# Altium integrated library Microchip Microcontroller 16-Bit PIC24F.IntLib: 262 symbols (part 2 of 15)
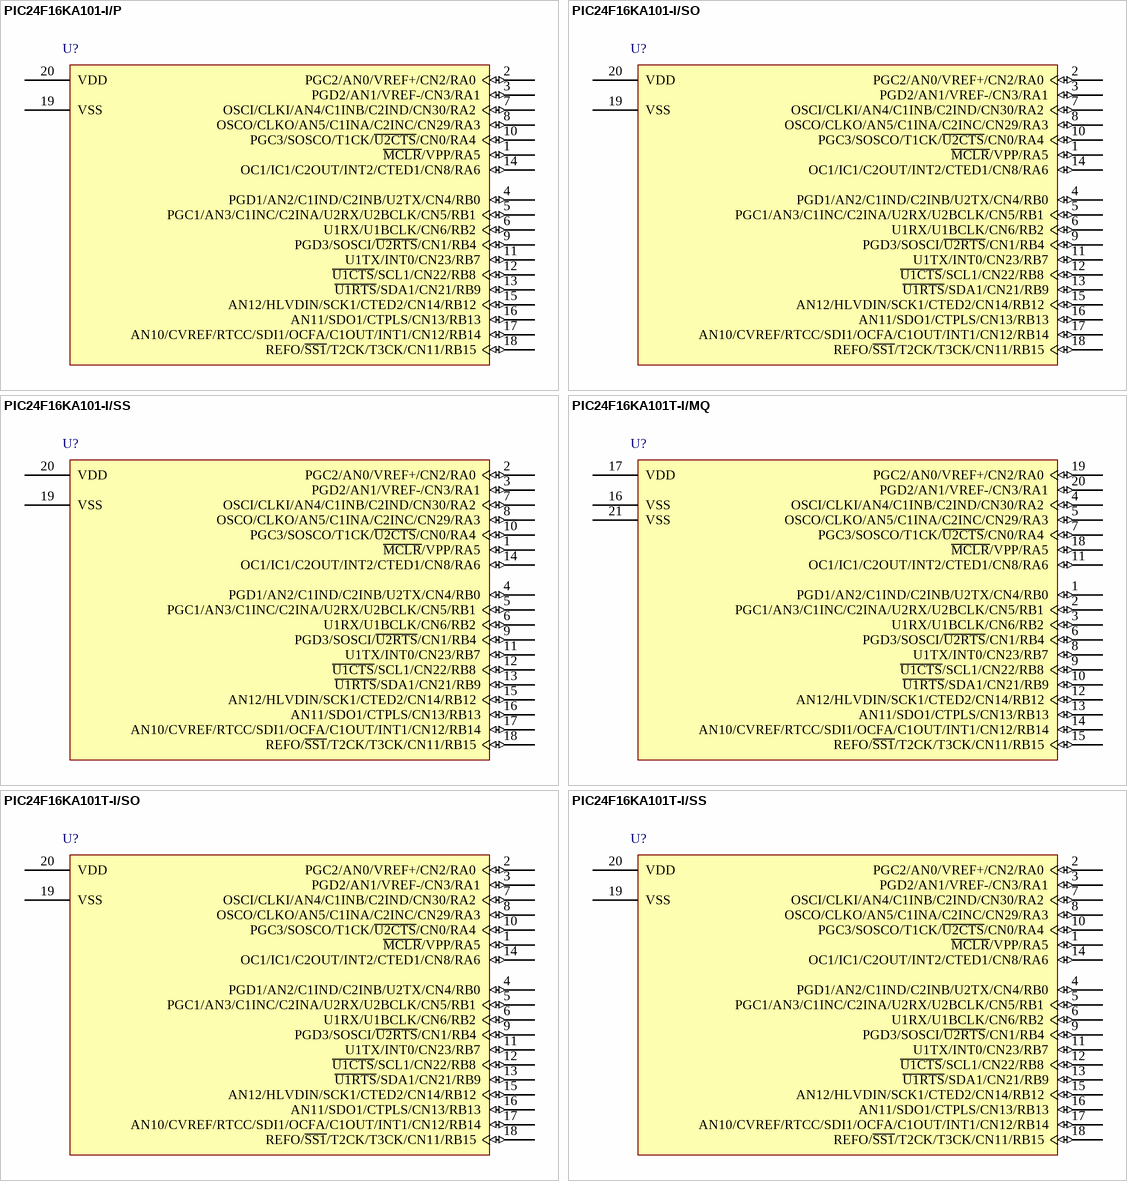
[diagram p62: symbols PIC24F16KA101-I/P to PIC24F16KA101T-I/SS]

## PIC24F16KA101-I/P
designator U?
16-Bit Flash Microcontroller with nanoWatt XLP Technology, 16KB Flash, 1.5KB SRAM, 20-Pin PDIP, Industrial Temperature; Published: 2-Dec-2009; LatestRevisionDate: 07-Oct-2010; LatestRevisionNote: Supplier links updated.; DatasheetVersion: revB, Mar-2009; PackageVersion: revBB, Aug-2009; PackageReference: PDIP300-P20; Publisher: Altium Limited; PackageDescription: 20-Lead Plastic Dual In-Line (P) - 300 mil Body [PDIP]; Supplier 1: Digi-Key; Supplier Part Number 1: PIC24F16KA101-I/P-ND; Supplier 2: Farnell; Supplier Part Number 2: 1707626; ComponentLink1Description: Datasheet; ComponentLink1URL: http://ww1.microchip.com/downloads/en/DeviceDoc/PIC24F16KA102_Family_datasheet_39927b.pdf; ComponentLink2Description: Packaging Specification; ComponentLink2URL: http://www.microchip.com/stellent/groups/techpub_sg/documents/packagingspec/en012702.pdf; ComponentLink3Description: Microchip.com Home; ComponentLink3URL: http://www.microchip.com/
footprint PDIP300-P20 (DIP, 20-Leads, Row Spacing 7.62mm, Pitch 2.54mm, Body 25.9x6.6mm)
pins: 1 ~{MCLR}/VPP/RA5 (io), 2 PGC2/AN0/VREF+/CN2/RA0 (io), 3 PGD2/AN1/VREF-/CN3/RA1 (io), 4 PGD1/AN2/C1IND/C2INB/U2TX/CN4/RB0 (io), 5 PGC1/AN3/C1INC/C2INA/U2RX/U2BCLK/CN5/RB1 (io), 6 U1RX/U1BCLK/CN6/RB2 (io), 7 OSCI/CLKI/AN4/C1INB/C2IND/CN30/RA2 (io), 8 OSCO/CLKO/AN5/C1INA/C2INC/CN29/RA3 (io), 9 PGD3/SOSCI/~{U2RTS}/CN1/RB4 (io), 10 PGC3/SOSCO/T1CK/~{U2CTS}/CN0/RA4 (io), 11 U1TX/INT0/CN23/RB7 (io), 12 ~{U1CTS}/SCL1/CN22/RB8 (io), 13 ~{U1RTS}/SDA1/CN21/RB9 (io), 14 OC1/IC1/C2OUT/INT2/CTED1/CN8/RA6 (io), 15 AN12/HLVDIN/SCK1/CTED2/CN14/RB12 (io), 16 AN11/SDO1/CTPLS/CN13/RB13 (io), 17 AN10/CVREF/RTCC/SDI1/OCFA/C1OUT/INT1/CN12/RB14 (io), 18 REFO/~{SS1}/T2CK/T3CK/CN11/RB15 (io), 19 VSS (power), 20 VDD (power)

## PIC24F16KA101-I/SO
designator U?
16-Bit Flash Microcontroller with nanoWatt XLP Technology, 16KB Flash, 1.5KB SRAM, 20-Pin SOIC, Industrial Temperature; Published: 2-Dec-2009; LatestRevisionDate: 07-Oct-2010; LatestRevisionNote: Supplier links updated.; DatasheetVersion: revB, Mar-2009; PackageVersion: revBB, Aug-2009; PackageReference: SOIC-SO20; Publisher: Altium Limited; PackageDescription: 20-Lead Plastic Small Outline (SO) - Wide 7.50mm Body [SOIC]; Supplier 1: Digi-Key; Supplier Part Number 1: PIC24F16KA101-I/SO-ND; Supplier 2: Farnell; Supplier Part Number 2: 1707627; Code_JEDEC: MS-013-AC; Code_IPC: SOIC127P1030-20; ComponentLink1Description: Datasheet; ComponentLink1URL: http://ww1.microchip.com/downloads/en/DeviceDoc/PIC24F16KA102_Family_datasheet_39927b.pdf; ComponentLink2Description: Packaging Specification; ComponentLink2URL: http://www.microchip.com/stellent/groups/techpub_sg/documents/packagingspec/en012702.pdf; ComponentLink3Description: Microchip.com Home; ComponentLink3URL: http://www.microchip.com/
footprint SOIC-SO20_N (SOIC, 20-Leads, Body 12.8x7.5mm, Pitch 1.27mm, IPC Medium Density)
footprint SOIC-SO20_L (SOIC, 20-Leads, Body 12.8x7.5mm, Pitch 1.27mm, IPC High Density)
footprint SOIC-SO20_M (SOIC, 20-Leads, Body 12.8x7.5mm, Pitch 1.27mm, IPC Low Density)
pins: 1 ~{MCLR}/VPP/RA5 (io), 2 PGC2/AN0/VREF+/CN2/RA0 (io), 3 PGD2/AN1/VREF-/CN3/RA1 (io), 4 PGD1/AN2/C1IND/C2INB/U2TX/CN4/RB0 (io), 5 PGC1/AN3/C1INC/C2INA/U2RX/U2BCLK/CN5/RB1 (io), 6 U1RX/U1BCLK/CN6/RB2 (io), 7 OSCI/CLKI/AN4/C1INB/C2IND/CN30/RA2 (io), 8 OSCO/CLKO/AN5/C1INA/C2INC/CN29/RA3 (io), 9 PGD3/SOSCI/~{U2RTS}/CN1/RB4 (io), 10 PGC3/SOSCO/T1CK/~{U2CTS}/CN0/RA4 (io), 11 U1TX/INT0/CN23/RB7 (io), 12 ~{U1CTS}/SCL1/CN22/RB8 (io), 13 ~{U1RTS}/SDA1/CN21/RB9 (io), 14 OC1/IC1/C2OUT/INT2/CTED1/CN8/RA6 (io), 15 AN12/HLVDIN/SCK1/CTED2/CN14/RB12 (io), 16 AN11/SDO1/CTPLS/CN13/RB13 (io), 17 AN10/CVREF/RTCC/SDI1/OCFA/C1OUT/INT1/CN12/RB14 (io), 18 REFO/~{SS1}/T2CK/T3CK/CN11/RB15 (io), 19 VSS (power), 20 VDD (power)

## PIC24F16KA101-I/SS
designator U?
16-Bit Flash Microcontroller with nanoWatt XLP Technology, 16KB Flash, 1.5KB SRAM, 20-Pin SSOP, Industrial Temperature; Published: 2-Dec-2009; LatestRevisionDate: 07-Oct-2010; LatestRevisionNote: Supplier links updated.; DatasheetVersion: revB, Mar-2009; PackageVersion: revBB, Aug-2009; PackageReference: SSOP-SS20; Publisher: Altium Limited; PackageDescription: 20-Lead Plastic Shrink Small Outline (SS) - 5.3mm Body [SSOP]; Supplier 1: Digi-Key; Supplier Part Number 1: PIC24F16KA101-I/SS-ND; Supplier 2: Farnell; Supplier Part Number 2: 1707628; Code_JEDEC: MO-150; Code_IPC: SOP65P780-20; ComponentLink1Description: Datasheet; ComponentLink1URL: http://ww1.microchip.com/downloads/en/DeviceDoc/PIC24F16KA102_Family_datasheet_39927b.pdf; ComponentLink2Description: Packaging Specification; ComponentLink2URL: http://www.microchip.com/stellent/groups/techpub_sg/documents/packagingspec/en012702.pdf; ComponentLink3Description: Microchip.com Home; ComponentLink3URL: http://www.microchip.com/
footprint SSOP-SS20_N (SOP, 20-Leads, Body 7.2x5.2mm, Pitch 0.65mm, IPC Medium Density)
footprint SSOP-SS20_L (SOP, 20-Leads, Body 7.2x5.2mm, Pitch 0.65mm, IPC High Density)
footprint SSOP-SS20_M (SOP, 20-Leads, Body 7.2x5.2mm, Pitch 0.65mm, IPC Low Density)
pins: 1 ~{MCLR}/VPP/RA5 (io), 2 PGC2/AN0/VREF+/CN2/RA0 (io), 3 PGD2/AN1/VREF-/CN3/RA1 (io), 4 PGD1/AN2/C1IND/C2INB/U2TX/CN4/RB0 (io), 5 PGC1/AN3/C1INC/C2INA/U2RX/U2BCLK/CN5/RB1 (io), 6 U1RX/U1BCLK/CN6/RB2 (io), 7 OSCI/CLKI/AN4/C1INB/C2IND/CN30/RA2 (io), 8 OSCO/CLKO/AN5/C1INA/C2INC/CN29/RA3 (io), 9 PGD3/SOSCI/~{U2RTS}/CN1/RB4 (io), 10 PGC3/SOSCO/T1CK/~{U2CTS}/CN0/RA4 (io), 11 U1TX/INT0/CN23/RB7 (io), 12 ~{U1CTS}/SCL1/CN22/RB8 (io), 13 ~{U1RTS}/SDA1/CN21/RB9 (io), 14 OC1/IC1/C2OUT/INT2/CTED1/CN8/RA6 (io), 15 AN12/HLVDIN/SCK1/CTED2/CN14/RB12 (io), 16 AN11/SDO1/CTPLS/CN13/RB13 (io), 17 AN10/CVREF/RTCC/SDI1/OCFA/C1OUT/INT1/CN12/RB14 (io), 18 REFO/~{SS1}/T2CK/T3CK/CN11/RB15 (io), 19 VSS (power), 20 VDD (power)

## PIC24F16KA101T-I/MQ
designator U?
16-Bit Flash Microcontroller with nanoWatt XLP Technology, 16KB Flash, 1.5KB SRAM, 20-Pin QFN, Industrial Temperature, Tape and Reel; Published: 2-Dec-2009; LatestRevisionDate: 07-Oct-2010; LatestRevisionNote: Supplier links updated.; DatasheetVersion: revB, Mar-2009; PackageVersion: revBB, Aug-2009; PackageReference: QFN-MQ20; Publisher: Altium Limited; PackageDescription: 20-Lead Plastic Quad Flat, No Lead Package (MQ) - 5x5x0.9 mm Body [QFN]; Supplier 1: Digi-Key; Supplier Part Number 1: PIC24F16KA101T-I/MQ-ND; ComponentLink1Description: Datasheet; ComponentLink1URL: http://ww1.microchip.com/downloads/en/DeviceDoc/PIC24F16KA102_Family_datasheet_39927b.pdf; ComponentLink2Description: Packaging Specification; ComponentLink2URL: http://www.microchip.com/stellent/groups/techpub_sg/documents/packagingspec/en012702.pdf; ComponentLink3Description: Microchip.com Home; ComponentLink3URL: http://www.microchip.com/
footprint QFN-MQ20_N (QFN, 20-Leads, Body 5x5 mm, Pitch 0.65mm, IPC Medium Density)
footprint QFN-MQ20_L (QFN, 20-Leads, Body 5x5 mm, Pitch 0.65mm, IPC High Density)
footprint QFN-MQ20_M (QFN, 20-Leads, Body 5x5 mm, Pitch 0.65mm, IPC Low Density)
pins: 1 PGD1/AN2/C1IND/C2INB/U2TX/CN4/RB0 (io), 2 PGC1/AN3/C1INC/C2INA/U2RX/U2BCLK/CN5/RB1 (io), 3 U1RX/U1BCLK/CN6/RB2 (io), 4 OSCI/CLKI/AN4/C1INB/C2IND/CN30/RA2 (io), 5 OSCO/CLKO/AN5/C1INA/C2INC/CN29/RA3 (io), 6 PGD3/SOSCI/~{U2RTS}/CN1/RB4 (io), 7 PGC3/SOSCO/T1CK/~{U2CTS}/CN0/RA4 (io), 8 U1TX/INT0/CN23/RB7 (io), 9 ~{U1CTS}/SCL1/CN22/RB8 (io), 10 ~{U1RTS}/SDA1/CN21/RB9 (io), 11 OC1/IC1/C2OUT/INT2/CTED1/CN8/RA6 (io), 12 AN12/HLVDIN/SCK1/CTED2/CN14/RB12 (io), 13 AN11/SDO1/CTPLS/CN13/RB13 (io), 14 AN10/CVREF/RTCC/SDI1/OCFA/C1OUT/INT1/CN12/RB14 (io), 15 REFO/~{SS1}/T2CK/T3CK/CN11/RB15 (io), 16 VSS (power), 17 VDD (power), 18 ~{MCLR}/VPP/RA5 (io), 19 PGC2/AN0/VREF+/CN2/RA0 (io), 20 PGD2/AN1/VREF-/CN3/RA1 (io), 21 VSS (power)

## PIC24F16KA101T-I/SO
designator U?
16-Bit Flash Microcontroller with nanoWatt XLP Technology, 16KB Flash, 1.5KB SRAM, 20-Pin SOIC, Industrial Temperature, Tape and Reel; Published: 2-Dec-2009; LatestRevisionDate: 07-Oct-2010; LatestRevisionNote: Supplier links updated.; DatasheetVersion: revB, Mar-2009; PackageVersion: revBB, Aug-2009; PackageReference: SOIC-SO20; Publisher: Altium Limited; PackageDescription: 20-Lead Plastic Small Outline (SO) - Wide 7.50mm Body [SOIC]; Supplier 1: Digi-Key; Supplier Part Number 1: PIC24F16KA101T-I/SO-ND; Code_JEDEC: MS-013-AC; Code_IPC: SOIC127P1030-20; ComponentLink1Description: Datasheet; ComponentLink1URL: http://ww1.microchip.com/downloads/en/DeviceDoc/PIC24F16KA102_Family_datasheet_39927b.pdf; ComponentLink2Description: Packaging Specification; ComponentLink2URL: http://www.microchip.com/stellent/groups/techpub_sg/documents/packagingspec/en012702.pdf; ComponentLink3Description: Microchip.com Home; ComponentLink3URL: http://www.microchip.com/
footprint SOIC-SO20_N (SOIC, 20-Leads, Body 12.8x7.5mm, Pitch 1.27mm, IPC Medium Density)
footprint SOIC-SO20_L (SOIC, 20-Leads, Body 12.8x7.5mm, Pitch 1.27mm, IPC High Density)
footprint SOIC-SO20_M (SOIC, 20-Leads, Body 12.8x7.5mm, Pitch 1.27mm, IPC Low Density)
pins: 1 ~{MCLR}/VPP/RA5 (io), 2 PGC2/AN0/VREF+/CN2/RA0 (io), 3 PGD2/AN1/VREF-/CN3/RA1 (io), 4 PGD1/AN2/C1IND/C2INB/U2TX/CN4/RB0 (io), 5 PGC1/AN3/C1INC/C2INA/U2RX/U2BCLK/CN5/RB1 (io), 6 U1RX/U1BCLK/CN6/RB2 (io), 7 OSCI/CLKI/AN4/C1INB/C2IND/CN30/RA2 (io), 8 OSCO/CLKO/AN5/C1INA/C2INC/CN29/RA3 (io), 9 PGD3/SOSCI/~{U2RTS}/CN1/RB4 (io), 10 PGC3/SOSCO/T1CK/~{U2CTS}/CN0/RA4 (io), 11 U1TX/INT0/CN23/RB7 (io), 12 ~{U1CTS}/SCL1/CN22/RB8 (io), 13 ~{U1RTS}/SDA1/CN21/RB9 (io), 14 OC1/IC1/C2OUT/INT2/CTED1/CN8/RA6 (io), 15 AN12/HLVDIN/SCK1/CTED2/CN14/RB12 (io), 16 AN11/SDO1/CTPLS/CN13/RB13 (io), 17 AN10/CVREF/RTCC/SDI1/OCFA/C1OUT/INT1/CN12/RB14 (io), 18 REFO/~{SS1}/T2CK/T3CK/CN11/RB15 (io), 19 VSS (power), 20 VDD (power)

## PIC24F16KA101T-I/SS
designator U?
16-Bit Flash Microcontroller with nanoWatt XLP Technology, 16KB Flash, 1.5KB SRAM, 20-Pin SSOP, Industrial Temperature, Tape and Reel; Published: 2-Dec-2009; LatestRevisionDate: 07-Oct-2010; LatestRevisionNote: Supplier links updated.; DatasheetVersion: revB, Mar-2009; PackageVersion: revBB, Aug-2009; PackageReference: SSOP-SS20; Publisher: Altium Limited; PackageDescription: 20-Lead Plastic Shrink Small Outline (SS) - 5.3mm Body [SSOP]; Supplier 1: Digi-Key; Supplier Part Number 1: PIC24F16KA101T-I/SS-ND; Code_JEDEC: MO-150; Code_IPC: SOP65P780-20; ComponentLink1Description: Datasheet; ComponentLink1URL: http://ww1.microchip.com/downloads/en/DeviceDoc/PIC24F16KA102_Family_datasheet_39927b.pdf; ComponentLink2Description: Packaging Specification; ComponentLink2URL: http://www.microchip.com/stellent/groups/techpub_sg/documents/packagingspec/en012702.pdf; ComponentLink3Description: Microchip.com Home; ComponentLink3URL: http://www.microchip.com/
footprint SSOP-SS20_N (SOP, 20-Leads, Body 7.2x5.2mm, Pitch 0.65mm, IPC Medium Density)
footprint SSOP-SS20_L (SOP, 20-Leads, Body 7.2x5.2mm, Pitch 0.65mm, IPC High Density)
footprint SSOP-SS20_M (SOP, 20-Leads, Body 7.2x5.2mm, Pitch 0.65mm, IPC Low Density)
pins: 1 ~{MCLR}/VPP/RA5 (io), 2 PGC2/AN0/VREF+/CN2/RA0 (io), 3 PGD2/AN1/VREF-/CN3/RA1 (io), 4 PGD1/AN2/C1IND/C2INB/U2TX/CN4/RB0 (io), 5 PGC1/AN3/C1INC/C2INA/U2RX/U2BCLK/CN5/RB1 (io), 6 U1RX/U1BCLK/CN6/RB2 (io), 7 OSCI/CLKI/AN4/C1INB/C2IND/CN30/RA2 (io), 8 OSCO/CLKO/AN5/C1INA/C2INC/CN29/RA3 (io), 9 PGD3/SOSCI/~{U2RTS}/CN1/RB4 (io), 10 PGC3/SOSCO/T1CK/~{U2CTS}/CN0/RA4 (io), 11 U1TX/INT0/CN23/RB7 (io), 12 ~{U1CTS}/SCL1/CN22/RB8 (io), 13 ~{U1RTS}/SDA1/CN21/RB9 (io), 14 OC1/IC1/C2OUT/INT2/CTED1/CN8/RA6 (io), 15 AN12/HLVDIN/SCK1/CTED2/CN14/RB12 (io), 16 AN11/SDO1/CTPLS/CN13/RB13 (io), 17 AN10/CVREF/RTCC/SDI1/OCFA/C1OUT/INT1/CN12/RB14 (io), 18 REFO/~{SS1}/T2CK/T3CK/CN11/RB15 (io), 19 VSS (power), 20 VDD (power)

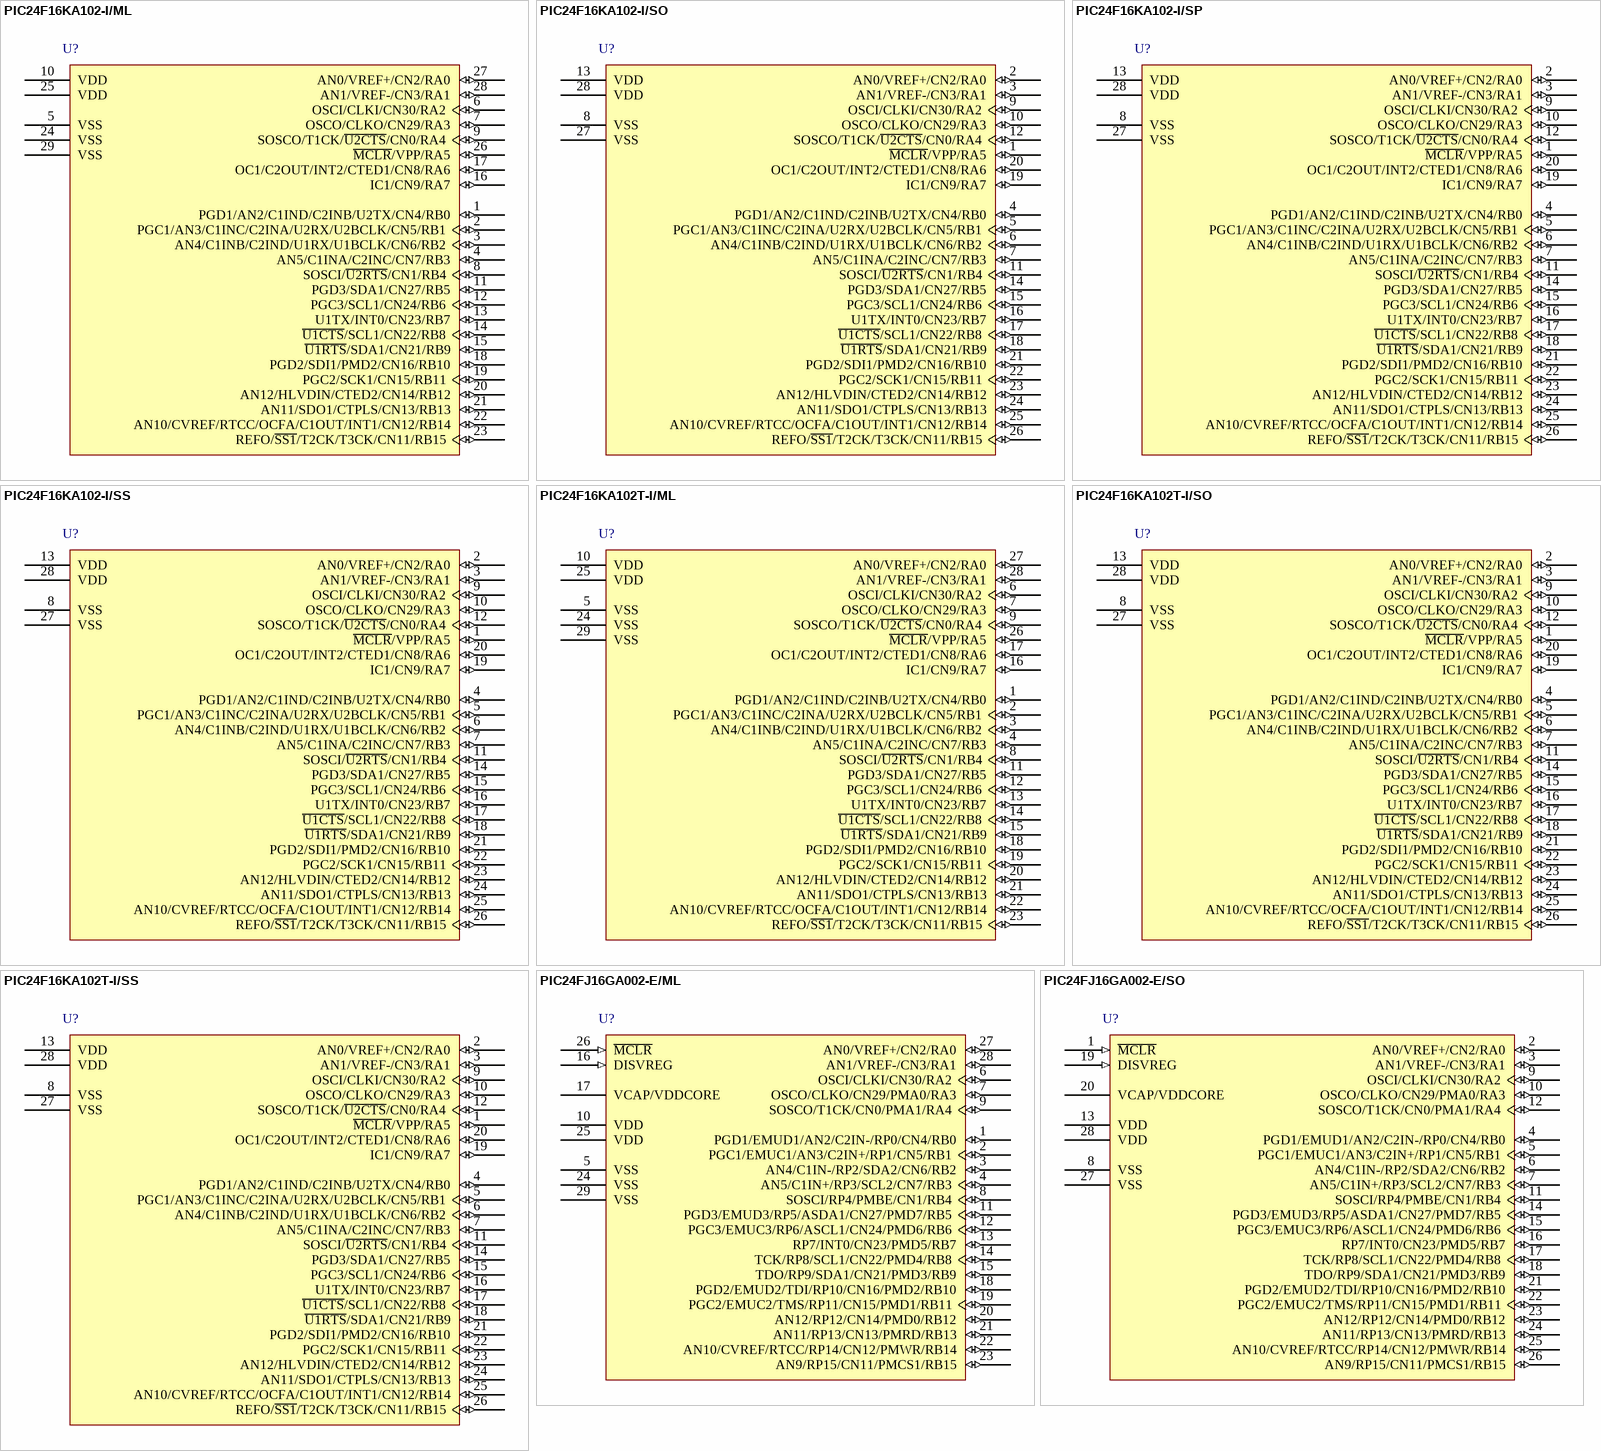
[diagram p4: symbols PIC24F16KA102-I/ML to PIC24FJ16GA002-E/SO]

## PIC24F16KA102-I/ML
designator U?
16-Bit Flash Microcontroller with nanoWatt XLP Technology, 16KB Flash, 1.5KB SRAM, 28-Pin QFN, Industrial Temperature; Published: 2-Dec-2009; LatestRevisionDate: 07-Oct-2010; LatestRevisionNote: Supplier links updated.; DatasheetVersion: revB, Mar-2009; PackageVersion: revBB, Aug-2009; PackageReference: QFN-ML28; Publisher: Altium Limited; PackageDescription: 28-Lead Plastic Quad Flat, No Lead Package (ML) - 6x6 mm Body [QFN] with 0.55 mm Contact Length; Supplier 1: Digi-Key; Supplier Part Number 1: PIC24F16KA102-I/ML-ND; Supplier 2: Farnell; Supplier Part Number 2: 1707629; Code_JEDEC: MO-220; Code_IPC: QFN65P600X600-28V; ComponentLink1Description: Datasheet; ComponentLink1URL: http://ww1.microchip.com/downloads/en/DeviceDoc/PIC24F16KA102_Family_datasheet_39927b.pdf; ComponentLink2Description: Packaging Specification; ComponentLink2URL: http://www.microchip.com/stellent/groups/techpub_sg/documents/packagingspec/en012702.pdf; ComponentLink3Description: Microchip.com Home; ComponentLink3URL: http://www.microchip.com/
footprint QFN-ML28_N (QFN, 28-Leads, Body 6x6 mm, Pitch 0.65mm, IPC Medium Density)
footprint QFN-ML28_L (QFN, 28-Leads, Body 6x6 mm, Pitch 0.65mm, IPC High Density)
footprint QFN-ML28_M (QFN, 28-Leads, Body 6x6 mm, Pitch 0.65mm, IPC Low Density)
pins: 1 PGD1/AN2/C1IND/C2INB/U2TX/CN4/RB0 (io), 2 PGC1/AN3/C1INC/C2INA/U2RX/U2BCLK/CN5/RB1 (io), 3 AN4/C1INB/C2IND/U1RX/U1BCLK/CN6/RB2 (io), 4 AN5/C1INA/C2INC/CN7/RB3 (io), 5 VSS (power), 6 OSCI/CLKI/CN30/RA2 (io), 7 OSCO/CLKO/CN29/RA3 (io), 8 SOSCI/~{U2RTS}/CN1/RB4 (io), 9 SOSCO/T1CK/~{U2CTS}/CN0/RA4 (io), 10 VDD (power), 11 PGD3/SDA1/CN27/RB5 (io), 12 PGC3/SCL1/CN24/RB6 (io), 13 U1TX/INT0/CN23/RB7 (io), 14 ~{U1CTS}/SCL1/CN22/RB8 (io), 15 ~{U1RTS}/SDA1/CN21/RB9 (io), 16 IC1/CN9/RA7 (io), 17 OC1/C2OUT/INT2/CTED1/CN8/RA6 (io), 18 PGD2/SDI1/PMD2/CN16/RB10 (io), 19 PGC2/SCK1/CN15/RB11 (io), 20 AN12/HLVDIN/CTED2/CN14/RB12 (io), 21 AN11/SDO1/CTPLS/CN13/RB13 (io), 22 AN10/CVREF/RTCC/OCFA/C1OUT/INT1/CN12/RB14 (io), 23 REFO/~{SS1}/T2CK/T3CK/CN11/RB15 (io), 24 VSS (power), 25 VDD (power), 26 ~{MCLR}/VPP/RA5 (io), 27 AN0/VREF+/CN2/RA0 (io), 28 AN1/VREF-/CN3/RA1 (io), 29 VSS (power)

## PIC24F16KA102-I/SO
designator U?
16-Bit Flash Microcontroller with nanoWatt XLP Technology, 16KB Flash, 1.5KB SRAM, 28-Pin SOIC, Industrial Temperature; Published: 2-Dec-2009; LatestRevisionDate: 07-Oct-2010; LatestRevisionNote: Supplier links updated.; DatasheetVersion: revB, Mar-2009; PackageVersion: revBB, Aug-2009; PackageReference: SOIC-SO28; Publisher: Altium Limited; PackageDescription: 28-Lead Plastic Small Outline (SO) - Wide 7.50mm Body [SOIC]; Supplier 1: Digi-Key; Supplier Part Number 1: PIC24F16KA102-I/SO-ND; Supplier 2: Farnell; Supplier Part Number 2: 1707630; Code_JEDEC: MS-013; ComponentLink1Description: Datasheet; ComponentLink1URL: http://ww1.microchip.com/downloads/en/DeviceDoc/PIC24F16KA102_Family_datasheet_39927b.pdf; ComponentLink2Description: Packaging Specification; ComponentLink2URL: http://www.microchip.com/stellent/groups/techpub_sg/documents/packagingspec/en012702.pdf; ComponentLink3Description: Microchip.com Home; ComponentLink3URL: http://www.microchip.com/
footprint SOIC-SO28_N (SOIC, 28-Leads, Body 17.9x7.5mm, Pitch 1.27mm, IPC Medium Density)
footprint SOIC-SO28_L (SOIC, 28-Leads, Body 17.9x7.5mm, Pitch 1.27mm, IPC High Density)
footprint SOIC-SO28_M (SOIC, 28-Leads, Body 17.9x7.5mm, Pitch 1.27mm, IPC Low Density)
pins: 1 ~{MCLR}/VPP/RA5 (io), 2 AN0/VREF+/CN2/RA0 (io), 3 AN1/VREF-/CN3/RA1 (io), 4 PGD1/AN2/C1IND/C2INB/U2TX/CN4/RB0 (io), 5 PGC1/AN3/C1INC/C2INA/U2RX/U2BCLK/CN5/RB1 (io), 6 AN4/C1INB/C2IND/U1RX/U1BCLK/CN6/RB2 (io), 7 AN5/C1INA/C2INC/CN7/RB3 (io), 8 VSS (power), 9 OSCI/CLKI/CN30/RA2 (io), 10 OSCO/CLKO/CN29/RA3 (io), 11 SOSCI/~{U2RTS}/CN1/RB4 (io), 12 SOSCO/T1CK/~{U2CTS}/CN0/RA4 (io), 13 VDD (power), 14 PGD3/SDA1/CN27/RB5 (io), 15 PGC3/SCL1/CN24/RB6 (io), 16 U1TX/INT0/CN23/RB7 (io), 17 ~{U1CTS}/SCL1/CN22/RB8 (io), 18 ~{U1RTS}/SDA1/CN21/RB9 (io), 19 IC1/CN9/RA7 (io), 20 OC1/C2OUT/INT2/CTED1/CN8/RA6 (io), 21 PGD2/SDI1/PMD2/CN16/RB10 (io), 22 PGC2/SCK1/CN15/RB11 (io), 23 AN12/HLVDIN/CTED2/CN14/RB12 (io), 24 AN11/SDO1/CTPLS/CN13/RB13 (io), 25 AN10/CVREF/RTCC/OCFA/C1OUT/INT1/CN12/RB14 (io), 26 REFO/~{SS1}/T2CK/T3CK/CN11/RB15 (io), 27 VSS (power), 28 VDD (power)

## PIC24F16KA102-I/SP
designator U?
16-Bit Flash Microcontroller with nanoWatt XLP Technology, 16KB Flash, 1.5KB SRAM, 28-Pin SPDIP, Industrial Temperature; Published: 2-Dec-2009; LatestRevisionDate: 07-Oct-2010; LatestRevisionNote: Supplier links updated.; DatasheetVersion: revB, Mar-2009; PackageVersion: revBB, Aug-2009; PackageReference: SPDIP300-SP28; Publisher: Altium Limited; PackageDescription: 28-Lead Skinny Plastic Dual In-Line (SP) - 300 mil Body [SPDIP]; Supplier 1: Digi-Key; Supplier Part Number 1: PIC24F16KA102-I/SP-ND; Supplier 2: Farnell; Supplier Part Number 2: 1707631; ComponentLink1Description: Datasheet; ComponentLink1URL: http://ww1.microchip.com/downloads/en/DeviceDoc/PIC24F16KA102_Family_datasheet_39927b.pdf; ComponentLink2Description: Packaging Specification; ComponentLink2URL: http://www.microchip.com/stellent/groups/techpub_sg/documents/packagingspec/en012702.pdf; ComponentLink3Description: Microchip.com Home; ComponentLink3URL: http://www.microchip.com/
footprint SPDIP300-SP28 (DIP, 28-Leads, Row Spacing 7.62mm, Pitch 2.54mm, Body 34.9x6.8mm)
pins: 1 ~{MCLR}/VPP/RA5 (io), 2 AN0/VREF+/CN2/RA0 (io), 3 AN1/VREF-/CN3/RA1 (io), 4 PGD1/AN2/C1IND/C2INB/U2TX/CN4/RB0 (io), 5 PGC1/AN3/C1INC/C2INA/U2RX/U2BCLK/CN5/RB1 (io), 6 AN4/C1INB/C2IND/U1RX/U1BCLK/CN6/RB2 (io), 7 AN5/C1INA/C2INC/CN7/RB3 (io), 8 VSS (power), 9 OSCI/CLKI/CN30/RA2 (io), 10 OSCO/CLKO/CN29/RA3 (io), 11 SOSCI/~{U2RTS}/CN1/RB4 (io), 12 SOSCO/T1CK/~{U2CTS}/CN0/RA4 (io), 13 VDD (power), 14 PGD3/SDA1/CN27/RB5 (io), 15 PGC3/SCL1/CN24/RB6 (io), 16 U1TX/INT0/CN23/RB7 (io), 17 ~{U1CTS}/SCL1/CN22/RB8 (io), 18 ~{U1RTS}/SDA1/CN21/RB9 (io), 19 IC1/CN9/RA7 (io), 20 OC1/C2OUT/INT2/CTED1/CN8/RA6 (io), 21 PGD2/SDI1/PMD2/CN16/RB10 (io), 22 PGC2/SCK1/CN15/RB11 (io), 23 AN12/HLVDIN/CTED2/CN14/RB12 (io), 24 AN11/SDO1/CTPLS/CN13/RB13 (io), 25 AN10/CVREF/RTCC/OCFA/C1OUT/INT1/CN12/RB14 (io), 26 REFO/~{SS1}/T2CK/T3CK/CN11/RB15 (io), 27 VSS (power), 28 VDD (power)

## PIC24F16KA102-I/SS
designator U?
16-Bit Flash Microcontroller with nanoWatt XLP Technology, 16KB Flash, 1.5KB SRAM, 28-Pin SSOP, Industrial Temperature; Published: 2-Dec-2009; LatestRevisionDate: 07-Oct-2010; LatestRevisionNote: Supplier links updated.; DatasheetVersion: revB, Mar-2009; PackageVersion: revBB, Aug-2009; PackageReference: SSOP-SS28; Publisher: Altium Limited; PackageDescription: 28-Lead Plastic Shrink Small Outline (SS) - 5.3mm Body [SSOP]; Supplier 1: Digi-Key; Supplier Part Number 1: PIC24F16KA102-I/SS-ND; Supplier 2: Farnell; Supplier Part Number 2: 1707633; Code_JEDEC: MS-150; Code_IPC: SOP65P780-28; ComponentLink1Description: Datasheet; ComponentLink1URL: http://ww1.microchip.com/downloads/en/DeviceDoc/PIC24F16KA102_Family_datasheet_39927b.pdf; ComponentLink2Description: Packaging Specification; ComponentLink2URL: http://www.microchip.com/stellent/groups/techpub_sg/documents/packagingspec/en012702.pdf; ComponentLink3Description: Microchip.com Home; ComponentLink3URL: http://www.microchip.com/
footprint SSOP-SS28_N (SOP, 28-Leads, Body 10.2x5.2mm, Pitch 0.65mm, IPC Medium Density)
footprint SSOP-SS28_L (SOP, 28-Leads, Body 10.2x5.2mm, Pitch 0.65mm, IPC High Density)
footprint SSOP-SS28_M (SOP, 28-Leads, Body 10.2x5.2mm, Pitch 0.65mm, IPC Low Density)
pins: 1 ~{MCLR}/VPP/RA5 (io), 2 AN0/VREF+/CN2/RA0 (io), 3 AN1/VREF-/CN3/RA1 (io), 4 PGD1/AN2/C1IND/C2INB/U2TX/CN4/RB0 (io), 5 PGC1/AN3/C1INC/C2INA/U2RX/U2BCLK/CN5/RB1 (io), 6 AN4/C1INB/C2IND/U1RX/U1BCLK/CN6/RB2 (io), 7 AN5/C1INA/C2INC/CN7/RB3 (io), 8 VSS (power), 9 OSCI/CLKI/CN30/RA2 (io), 10 OSCO/CLKO/CN29/RA3 (io), 11 SOSCI/~{U2RTS}/CN1/RB4 (io), 12 SOSCO/T1CK/~{U2CTS}/CN0/RA4 (io), 13 VDD (power), 14 PGD3/SDA1/CN27/RB5 (io), 15 PGC3/SCL1/CN24/RB6 (io), 16 U1TX/INT0/CN23/RB7 (io), 17 ~{U1CTS}/SCL1/CN22/RB8 (io), 18 ~{U1RTS}/SDA1/CN21/RB9 (io), 19 IC1/CN9/RA7 (io), 20 OC1/C2OUT/INT2/CTED1/CN8/RA6 (io), 21 PGD2/SDI1/PMD2/CN16/RB10 (io), 22 PGC2/SCK1/CN15/RB11 (io), 23 AN12/HLVDIN/CTED2/CN14/RB12 (io), 24 AN11/SDO1/CTPLS/CN13/RB13 (io), 25 AN10/CVREF/RTCC/OCFA/C1OUT/INT1/CN12/RB14 (io), 26 REFO/~{SS1}/T2CK/T3CK/CN11/RB15 (io), 27 VSS (power), 28 VDD (power)

## PIC24F16KA102T-I/ML
designator U?
16-Bit Flash Microcontroller with nanoWatt XLP Technology, 16KB Flash, 1.5KB SRAM, 28-Pin QFN, Industrial Temperature, Tape and Reel; Published: 2-Dec-2009; LatestRevisionDate: 07-Oct-2010; LatestRevisionNote: Supplier links updated.; DatasheetVersion: revB, Mar-2009; PackageVersion: revBB, Aug-2009; PackageReference: QFN-ML28; Publisher: Altium Limited; PackageDescription: 28-Lead Plastic Quad Flat, No Lead Package (ML) - 6x6 mm Body [QFN] with 0.55 mm Contact Length; Supplier 1: Digi-Key; Supplier Part Number 1: PIC24F16KA102T-I/ML-ND; Code_JEDEC: MO-220; Code_IPC: QFN65P600X600-28V; ComponentLink1Description: Datasheet; ComponentLink1URL: http://ww1.microchip.com/downloads/en/DeviceDoc/PIC24F16KA102_Family_datasheet_39927b.pdf; ComponentLink2Description: Packaging Specification; ComponentLink2URL: http://www.microchip.com/stellent/groups/techpub_sg/documents/packagingspec/en012702.pdf; ComponentLink3Description: Microchip.com Home; ComponentLink3URL: http://www.microchip.com/
footprint QFN-ML28_N (QFN, 28-Leads, Body 6x6 mm, Pitch 0.65mm, IPC Medium Density)
footprint QFN-ML28_L (QFN, 28-Leads, Body 6x6 mm, Pitch 0.65mm, IPC High Density)
footprint QFN-ML28_M (QFN, 28-Leads, Body 6x6 mm, Pitch 0.65mm, IPC Low Density)
pins: 1 PGD1/AN2/C1IND/C2INB/U2TX/CN4/RB0 (io), 2 PGC1/AN3/C1INC/C2INA/U2RX/U2BCLK/CN5/RB1 (io), 3 AN4/C1INB/C2IND/U1RX/U1BCLK/CN6/RB2 (io), 4 AN5/C1INA/C2INC/CN7/RB3 (io), 5 VSS (power), 6 OSCI/CLKI/CN30/RA2 (io), 7 OSCO/CLKO/CN29/RA3 (io), 8 SOSCI/~{U2RTS}/CN1/RB4 (io), 9 SOSCO/T1CK/~{U2CTS}/CN0/RA4 (io), 10 VDD (power), 11 PGD3/SDA1/CN27/RB5 (io), 12 PGC3/SCL1/CN24/RB6 (io), 13 U1TX/INT0/CN23/RB7 (io), 14 ~{U1CTS}/SCL1/CN22/RB8 (io), 15 ~{U1RTS}/SDA1/CN21/RB9 (io), 16 IC1/CN9/RA7 (io), 17 OC1/C2OUT/INT2/CTED1/CN8/RA6 (io), 18 PGD2/SDI1/PMD2/CN16/RB10 (io), 19 PGC2/SCK1/CN15/RB11 (io), 20 AN12/HLVDIN/CTED2/CN14/RB12 (io), 21 AN11/SDO1/CTPLS/CN13/RB13 (io), 22 AN10/CVREF/RTCC/OCFA/C1OUT/INT1/CN12/RB14 (io), 23 REFO/~{SS1}/T2CK/T3CK/CN11/RB15 (io), 24 VSS (power), 25 VDD (power), 26 ~{MCLR}/VPP/RA5 (io), 27 AN0/VREF+/CN2/RA0 (io), 28 AN1/VREF-/CN3/RA1 (io), 29 VSS (power)

## PIC24F16KA102T-I/SO
designator U?
16-Bit Flash Microcontroller with nanoWatt XLP Technology, 16KB Flash, 1.5KB SRAM, 28-Pin SOIC, Industrial Temperature, Tape and Reel; Published: 2-Dec-2009; LatestRevisionDate: 07-Oct-2010; LatestRevisionNote: Supplier links updated.; DatasheetVersion: revB, Mar-2009; PackageVersion: revBB, Aug-2009; PackageReference: SOIC-SO28; Publisher: Altium Limited; PackageDescription: 28-Lead Plastic Small Outline (SO) - Wide 7.50mm Body [SOIC]; Supplier 1: Digi-Key; Supplier Part Number 1: PIC24F16KA102T-I/SO-ND; Code_JEDEC: MS-013; ComponentLink1Description: Datasheet; ComponentLink1URL: http://ww1.microchip.com/downloads/en/DeviceDoc/PIC24F16KA102_Family_datasheet_39927b.pdf; ComponentLink2Description: Packaging Specification; ComponentLink2URL: http://www.microchip.com/stellent/groups/techpub_sg/documents/packagingspec/en012702.pdf; ComponentLink3Description: Microchip.com Home; ComponentLink3URL: http://www.microchip.com/
footprint SOIC-SO28_N (SOIC, 28-Leads, Body 17.9x7.5mm, Pitch 1.27mm, IPC Medium Density)
footprint SOIC-SO28_L (SOIC, 28-Leads, Body 17.9x7.5mm, Pitch 1.27mm, IPC High Density)
footprint SOIC-SO28_M (SOIC, 28-Leads, Body 17.9x7.5mm, Pitch 1.27mm, IPC Low Density)
pins: 1 ~{MCLR}/VPP/RA5 (io), 2 AN0/VREF+/CN2/RA0 (io), 3 AN1/VREF-/CN3/RA1 (io), 4 PGD1/AN2/C1IND/C2INB/U2TX/CN4/RB0 (io), 5 PGC1/AN3/C1INC/C2INA/U2RX/U2BCLK/CN5/RB1 (io), 6 AN4/C1INB/C2IND/U1RX/U1BCLK/CN6/RB2 (io), 7 AN5/C1INA/C2INC/CN7/RB3 (io), 8 VSS (power), 9 OSCI/CLKI/CN30/RA2 (io), 10 OSCO/CLKO/CN29/RA3 (io), 11 SOSCI/~{U2RTS}/CN1/RB4 (io), 12 SOSCO/T1CK/~{U2CTS}/CN0/RA4 (io), 13 VDD (power), 14 PGD3/SDA1/CN27/RB5 (io), 15 PGC3/SCL1/CN24/RB6 (io), 16 U1TX/INT0/CN23/RB7 (io), 17 ~{U1CTS}/SCL1/CN22/RB8 (io), 18 ~{U1RTS}/SDA1/CN21/RB9 (io), 19 IC1/CN9/RA7 (io), 20 OC1/C2OUT/INT2/CTED1/CN8/RA6 (io), 21 PGD2/SDI1/PMD2/CN16/RB10 (io), 22 PGC2/SCK1/CN15/RB11 (io), 23 AN12/HLVDIN/CTED2/CN14/RB12 (io), 24 AN11/SDO1/CTPLS/CN13/RB13 (io), 25 AN10/CVREF/RTCC/OCFA/C1OUT/INT1/CN12/RB14 (io), 26 REFO/~{SS1}/T2CK/T3CK/CN11/RB15 (io), 27 VSS (power), 28 VDD (power)

## PIC24F16KA102T-I/SS
designator U?
16-Bit Flash Microcontroller with nanoWatt XLP Technology, 16KB Flash, 1.5KB SRAM, 28-Pin SSOP, Industrial Temperature, Tape and Reel; Published: 2-Dec-2009; LatestRevisionDate: 07-Oct-2010; LatestRevisionNote: Supplier links updated.; DatasheetVersion: revB, Mar-2009; PackageVersion: revBB, Aug-2009; PackageReference: SSOP-SS28; Publisher: Altium Limited; PackageDescription: 28-Lead Plastic Shrink Small Outline (SS) - 5.3mm Body [SSOP]; Supplier 1: Digi-Key; Supplier Part Number 1: PIC24F16KA102T-I/SS-ND; Code_JEDEC: MS-150; Code_IPC: SOP65P780-28; ComponentLink1Description: Datasheet; ComponentLink1URL: http://ww1.microchip.com/downloads/en/DeviceDoc/PIC24F16KA102_Family_datasheet_39927b.pdf; ComponentLink2Description: Packaging Specification; ComponentLink2URL: http://www.microchip.com/stellent/groups/techpub_sg/documents/packagingspec/en012702.pdf; ComponentLink3Description: Microchip.com Home; ComponentLink3URL: http://www.microchip.com/
footprint SSOP-SS28_N (SOP, 28-Leads, Body 10.2x5.2mm, Pitch 0.65mm, IPC Medium Density)
footprint SSOP-SS28_L (SOP, 28-Leads, Body 10.2x5.2mm, Pitch 0.65mm, IPC High Density)
footprint SSOP-SS28_M (SOP, 28-Leads, Body 10.2x5.2mm, Pitch 0.65mm, IPC Low Density)
pins: 1 ~{MCLR}/VPP/RA5 (io), 2 AN0/VREF+/CN2/RA0 (io), 3 AN1/VREF-/CN3/RA1 (io), 4 PGD1/AN2/C1IND/C2INB/U2TX/CN4/RB0 (io), 5 PGC1/AN3/C1INC/C2INA/U2RX/U2BCLK/CN5/RB1 (io), 6 AN4/C1INB/C2IND/U1RX/U1BCLK/CN6/RB2 (io), 7 AN5/C1INA/C2INC/CN7/RB3 (io), 8 VSS (power), 9 OSCI/CLKI/CN30/RA2 (io), 10 OSCO/CLKO/CN29/RA3 (io), 11 SOSCI/~{U2RTS}/CN1/RB4 (io), 12 SOSCO/T1CK/~{U2CTS}/CN0/RA4 (io), 13 VDD (power), 14 PGD3/SDA1/CN27/RB5 (io), 15 PGC3/SCL1/CN24/RB6 (io), 16 U1TX/INT0/CN23/RB7 (io), 17 ~{U1CTS}/SCL1/CN22/RB8 (io), 18 ~{U1RTS}/SDA1/CN21/RB9 (io), 19 IC1/CN9/RA7 (io), 20 OC1/C2OUT/INT2/CTED1/CN8/RA6 (io), 21 PGD2/SDI1/PMD2/CN16/RB10 (io), 22 PGC2/SCK1/CN15/RB11 (io), 23 AN12/HLVDIN/CTED2/CN14/RB12 (io), 24 AN11/SDO1/CTPLS/CN13/RB13 (io), 25 AN10/CVREF/RTCC/OCFA/C1OUT/INT1/CN12/RB14 (io), 26 REFO/~{SS1}/T2CK/T3CK/CN11/RB15 (io), 27 VSS (power), 28 VDD (power)

## PIC24FJ16GA002-E/ML
designator U?
General Purpose 16-Bit Flash Microcontroller, 16KB Flash, 4KB SRAM, 28-Pin QFN, Extended Temperature; Published: 2-Dec-2009; LatestRevisionDate: 07-Oct-2010; LatestRevisionNote: Updated to datasheet revision D, Feb-2010. Supplier links updated.; DatasheetVersion: revD, Feb-2010; PackageVersion: revBB, Aug-2009; PackageReference: QFN-ML28; Publisher: Altium Limited; PackageDescription: 28-Lead Plastic Quad Flat, No Lead Package (ML) - 6x6 mm Body [QFN] with 0.55 mm Contact Length; Supplier 1: Digi-Key; Supplier Part Number 1: PIC24FJ16GA002-E/ML-ND; Code_JEDEC: MO-220; Code_IPC: QFN65P600X600-28V; ComponentLink1Description: Datasheet; ComponentLink1URL: http://ww1.microchip.com/downloads/en/DeviceDoc/39881D.pdf; ComponentLink2Description: Packaging Specification; ComponentLink2URL: http://www.microchip.com/stellent/groups/techpub_sg/documents/packagingspec/en012702.pdf; ComponentLink3Description: Microchip.com Home; ComponentLink3URL: http://www.microchip.com/
footprint QFN-ML28_N (QFN, 28-Leads, Body 6x6 mm, Pitch 0.65mm, IPC Medium Density)
footprint QFN-ML28_L (QFN, 28-Leads, Body 6x6 mm, Pitch 0.65mm, IPC High Density)
footprint QFN-ML28_M (QFN, 28-Leads, Body 6x6 mm, Pitch 0.65mm, IPC Low Density)
pins: 1 PGD1/EMUD1/AN2/C2IN-/RP0/CN4/RB0 (io), 2 PGC1/EMUC1/AN3/C2IN+/RP1/CN5/RB1 (io), 3 AN4/C1IN-/RP2/SDA2/CN6/RB2 (io), 4 AN5/C1IN+/RP3/SCL2/CN7/RB3 (io), 5 VSS (power), 6 OSCI/CLKI/CN30/RA2 (io), 7 OSCO/CLKO/CN29/PMA0/RA3 (io), 8 SOSCI/RP4/PMBE/CN1/RB4 (io), 9 SOSCO/T1CK/CN0/PMA1/RA4 (io), 10 VDD (power), 11 PGD3/EMUD3/RP5/ASDA1/CN27/PMD7/RB5 (io), 12 PGC3/EMUC3/RP6/ASCL1/CN24/PMD6/RB6 (io), 13 RP7/INT0/CN23/PMD5/RB7 (io), 14 TCK/RP8/SCL1/CN22/PMD4/RB8 (io), 15 TDO/RP9/SDA1/CN21/PMD3/RB9 (io), 16 DISVREG (in), 17 VCAP/VDDCORE (power), 18 PGD2/EMUD2/TDI/RP10/CN16/PMD2/RB10 (io), 19 PGC2/EMUC2/TMS/RP11/CN15/PMD1/RB11 (io), 20 AN12/RP12/CN14/PMD0/RB12 (io), 21 AN11/RP13/CN13/PMRD/RB13 (io), 22 AN10/CVREF/RTCC/RP14/CN12/PMWR/RB14 (io), 23 AN9/RP15/CN11/PMCS1/RB15 (io), 24 VSS (power), 25 VDD (power), 26 ~{MCLR} (in), 27 AN0/VREF+/CN2/RA0 (io), 28 AN1/VREF-/CN3/RA1 (io), 29 VSS (power)

## PIC24FJ16GA002-E/SO
designator U?
General Purpose 16-Bit Flash Microcontroller, 16KB Flash, 4KB SRAM, 28-Pin SOIC, Extended Temperature; Published: 2-Dec-2009; LatestRevisionDate: 07-Oct-2010; LatestRevisionNote: Updated to datasheet revision D, Feb-2010. Supplier links updated.; DatasheetVersion: revD, Feb-2010; PackageVersion: revBB, Aug-2009; PackageReference: SOIC-SO28; Publisher: Altium Limited; PackageDescription: 28-Lead Plastic Small Outline (SO) - Wide 7.50mm Body [SOIC]; Supplier 1: Digi-Key; Supplier Part Number 1: PIC24FJ16GA002-E/SO-ND; Code_JEDEC: MS-013; ComponentLink1Description: Datasheet; ComponentLink1URL: http://ww1.microchip.com/downloads/en/DeviceDoc/39881D.pdf; ComponentLink2Description: Packaging Specification; ComponentLink2URL: http://www.microchip.com/stellent/groups/techpub_sg/documents/packagingspec/en012702.pdf; ComponentLink3Description: Microchip.com Home; ComponentLink3URL: http://www.microchip.com/
footprint SOIC-SO28_N (SOIC, 28-Leads, Body 17.9x7.5mm, Pitch 1.27mm, IPC Medium Density)
footprint SOIC-SO28_L (SOIC, 28-Leads, Body 17.9x7.5mm, Pitch 1.27mm, IPC High Density)
footprint SOIC-SO28_M (SOIC, 28-Leads, Body 17.9x7.5mm, Pitch 1.27mm, IPC Low Density)
pins: 1 ~{MCLR} (in), 2 AN0/VREF+/CN2/RA0 (io), 3 AN1/VREF-/CN3/RA1 (io), 4 PGD1/EMUD1/AN2/C2IN-/RP0/CN4/RB0 (io), 5 PGC1/EMUC1/AN3/C2IN+/RP1/CN5/RB1 (io), 6 AN4/C1IN-/RP2/SDA2/CN6/RB2 (io), 7 AN5/C1IN+/RP3/SCL2/CN7/RB3 (io), 8 VSS (power), 9 OSCI/CLKI/CN30/RA2 (io), 10 OSCO/CLKO/CN29/PMA0/RA3 (io), 11 SOSCI/RP4/PMBE/CN1/RB4 (io), 12 SOSCO/T1CK/CN0/PMA1/RA4 (io), 13 VDD (power), 14 PGD3/EMUD3/RP5/ASDA1/CN27/PMD7/RB5 (io), 15 PGC3/EMUC3/RP6/ASCL1/CN24/PMD6/RB6 (io), 16 RP7/INT0/CN23/PMD5/RB7 (io), 17 TCK/RP8/SCL1/CN22/PMD4/RB8 (io), 18 TDO/RP9/SDA1/CN21/PMD3/RB9 (io), 19 DISVREG (in), 20 VCAP/VDDCORE (power), 21 PGD2/EMUD2/TDI/RP10/CN16/PMD2/RB10 (io), 22 PGC2/EMUC2/TMS/RP11/CN15/PMD1/RB11 (io), 23 AN12/RP12/CN14/PMD0/RB12 (io), 24 AN11/RP13/CN13/PMRD/RB13 (io), 25 AN10/CVREF/RTCC/RP14/CN12/PMWR/RB14 (io), 26 AN9/RP15/CN11/PMCS1/RB15 (io), 27 VSS (power), 28 VDD (power)

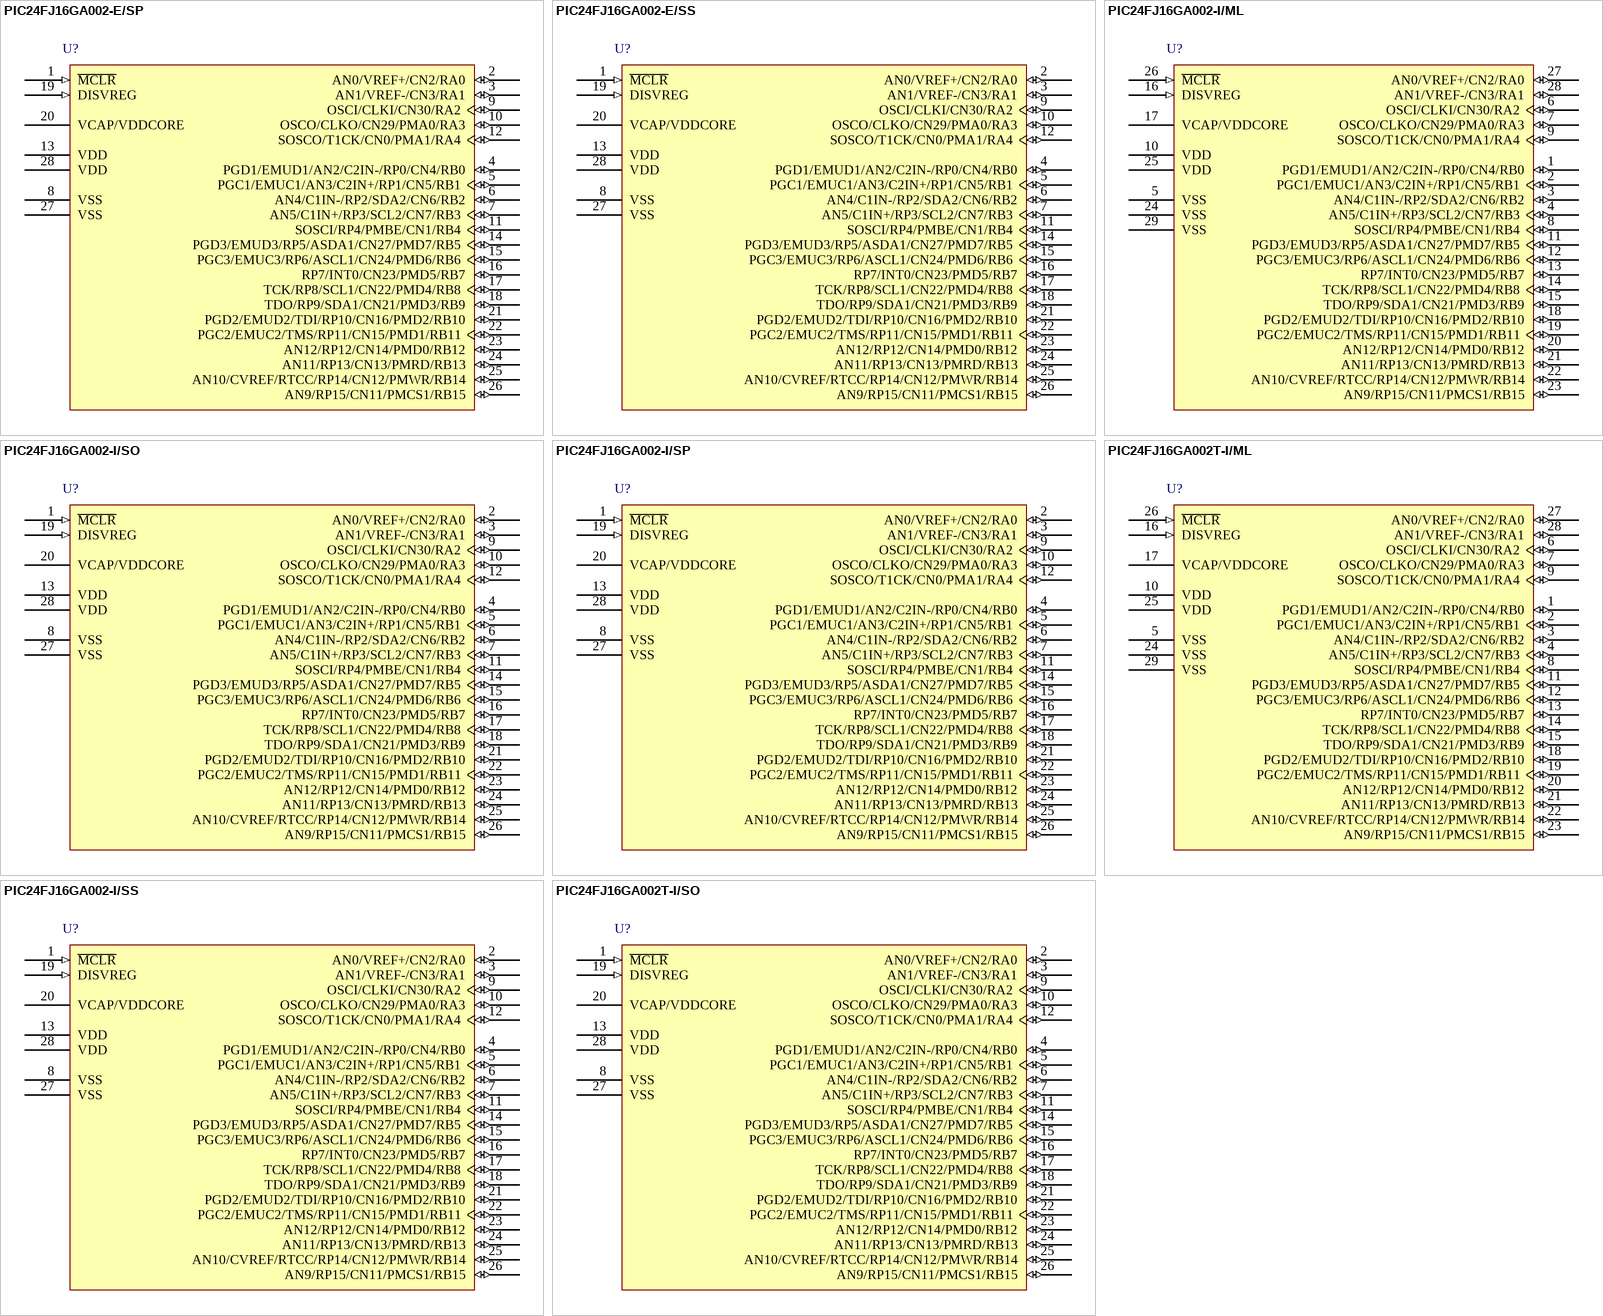
[diagram p5: symbols PIC24FJ16GA002-E/SP to PIC24FJ16GA002T-I/SO]

## PIC24FJ16GA002-E/SP
designator U?
General Purpose 16-Bit Flash Microcontroller, 16KB Flash, 4KB SRAM, 28-Pin SPDIP, Extended Temperature; Published: 2-Dec-2009; LatestRevisionDate: 07-Oct-2010; LatestRevisionNote: Updated to datasheet revision D, Feb-2010. Supplier links updated.; DatasheetVersion: revD, Feb-2010; PackageVersion: revBB, Aug-2009; PackageReference: SPDIP300-SP28; Publisher: Altium Limited; PackageDescription: 28-Lead Skinny Plastic Dual In-Line (SP) - 300 mil Body [SPDIP]; Supplier 1: Digi-Key; Supplier Part Number 1: PIC24FJ16GA002-E/SP-ND; Supplier 2: Farnell; Supplier Part Number 2: 1816078; ComponentLink1Description: Datasheet; ComponentLink1URL: http://ww1.microchip.com/downloads/en/DeviceDoc/39881D.pdf; ComponentLink2Description: Packaging Specification; ComponentLink2URL: http://www.microchip.com/stellent/groups/techpub_sg/documents/packagingspec/en012702.pdf; ComponentLink3Description: Microchip.com Home; ComponentLink3URL: http://www.microchip.com/
footprint SPDIP300-SP28 (DIP, 28-Leads, Row Spacing 7.62mm, Pitch 2.54mm, Body 34.9x6.8mm)
pins: 1 ~{MCLR} (in), 2 AN0/VREF+/CN2/RA0 (io), 3 AN1/VREF-/CN3/RA1 (io), 4 PGD1/EMUD1/AN2/C2IN-/RP0/CN4/RB0 (io), 5 PGC1/EMUC1/AN3/C2IN+/RP1/CN5/RB1 (io), 6 AN4/C1IN-/RP2/SDA2/CN6/RB2 (io), 7 AN5/C1IN+/RP3/SCL2/CN7/RB3 (io), 8 VSS (power), 9 OSCI/CLKI/CN30/RA2 (io), 10 OSCO/CLKO/CN29/PMA0/RA3 (io), 11 SOSCI/RP4/PMBE/CN1/RB4 (io), 12 SOSCO/T1CK/CN0/PMA1/RA4 (io), 13 VDD (power), 14 PGD3/EMUD3/RP5/ASDA1/CN27/PMD7/RB5 (io), 15 PGC3/EMUC3/RP6/ASCL1/CN24/PMD6/RB6 (io), 16 RP7/INT0/CN23/PMD5/RB7 (io), 17 TCK/RP8/SCL1/CN22/PMD4/RB8 (io), 18 TDO/RP9/SDA1/CN21/PMD3/RB9 (io), 19 DISVREG (in), 20 VCAP/VDDCORE (power), 21 PGD2/EMUD2/TDI/RP10/CN16/PMD2/RB10 (io), 22 PGC2/EMUC2/TMS/RP11/CN15/PMD1/RB11 (io), 23 AN12/RP12/CN14/PMD0/RB12 (io), 24 AN11/RP13/CN13/PMRD/RB13 (io), 25 AN10/CVREF/RTCC/RP14/CN12/PMWR/RB14 (io), 26 AN9/RP15/CN11/PMCS1/RB15 (io), 27 VSS (power), 28 VDD (power)

## PIC24FJ16GA002-E/SS
designator U?
General Purpose 16-Bit Flash Microcontroller, 16KB Flash, 4KB SRAM, 28-Pin SSOP, Extended Temperature; Published: 2-Dec-2009; LatestRevisionDate: 07-Oct-2010; LatestRevisionNote: Updated to datasheet revision D, Feb-2010. Supplier links updated.; DatasheetVersion: revD, Feb-2010; PackageVersion: revBB, Aug-2009; PackageReference: SSOP-SS28; Publisher: Altium Limited; PackageDescription: 28-Lead Plastic Shrink Small Outline (SS) - 5.3mm Body [SSOP]; Supplier 1: Digi-Key; Supplier Part Number 1: PIC24FJ16GA002-E/SS-ND; Supplier 2: Farnell; Supplier Part Number 2: 1818726; Code_JEDEC: MS-150; Code_IPC: SOP65P780-28; ComponentLink1Description: Datasheet; ComponentLink1URL: http://ww1.microchip.com/downloads/en/DeviceDoc/39881D.pdf; ComponentLink2Description: Packaging Specification; ComponentLink2URL: http://www.microchip.com/stellent/groups/techpub_sg/documents/packagingspec/en012702.pdf; ComponentLink3Description: Microchip.com Home; ComponentLink3URL: http://www.microchip.com/
footprint SSOP-SS28_N (SOP, 28-Leads, Body 10.2x5.2mm, Pitch 0.65mm, IPC Medium Density)
footprint SSOP-SS28_L (SOP, 28-Leads, Body 10.2x5.2mm, Pitch 0.65mm, IPC High Density)
footprint SSOP-SS28_M (SOP, 28-Leads, Body 10.2x5.2mm, Pitch 0.65mm, IPC Low Density)
pins: 1 ~{MCLR} (in), 2 AN0/VREF+/CN2/RA0 (io), 3 AN1/VREF-/CN3/RA1 (io), 4 PGD1/EMUD1/AN2/C2IN-/RP0/CN4/RB0 (io), 5 PGC1/EMUC1/AN3/C2IN+/RP1/CN5/RB1 (io), 6 AN4/C1IN-/RP2/SDA2/CN6/RB2 (io), 7 AN5/C1IN+/RP3/SCL2/CN7/RB3 (io), 8 VSS (power), 9 OSCI/CLKI/CN30/RA2 (io), 10 OSCO/CLKO/CN29/PMA0/RA3 (io), 11 SOSCI/RP4/PMBE/CN1/RB4 (io), 12 SOSCO/T1CK/CN0/PMA1/RA4 (io), 13 VDD (power), 14 PGD3/EMUD3/RP5/ASDA1/CN27/PMD7/RB5 (io), 15 PGC3/EMUC3/RP6/ASCL1/CN24/PMD6/RB6 (io), 16 RP7/INT0/CN23/PMD5/RB7 (io), 17 TCK/RP8/SCL1/CN22/PMD4/RB8 (io), 18 TDO/RP9/SDA1/CN21/PMD3/RB9 (io), 19 DISVREG (in), 20 VCAP/VDDCORE (power), 21 PGD2/EMUD2/TDI/RP10/CN16/PMD2/RB10 (io), 22 PGC2/EMUC2/TMS/RP11/CN15/PMD1/RB11 (io), 23 AN12/RP12/CN14/PMD0/RB12 (io), 24 AN11/RP13/CN13/PMRD/RB13 (io), 25 AN10/CVREF/RTCC/RP14/CN12/PMWR/RB14 (io), 26 AN9/RP15/CN11/PMCS1/RB15 (io), 27 VSS (power), 28 VDD (power)

## PIC24FJ16GA002-I/ML
designator U?
General Purpose 16-Bit Flash Microcontroller, 16KB Flash, 4KB SRAM, 28-Pin QFN, Industrial Temperature; Published: 29-Jan-2009; LatestRevisionDate: 07-Oct-2010; LatestRevisionNote: Updated to datasheet revision D, Feb-2010. Supplier links updated.; DatasheetVersion: revD, Feb-2010; PackageVersion: revBB, Aug-2009; PackageReference: QFN-ML28; Publisher: Altium Limited; PackageDescription: 28-Lead Plastic Quad Flat, No Lead Package (ML) - 6x6 mm Body [QFN] with 0.55 mm Contact Length; Supplier 1: Digi-Key; Supplier Part Number 1: PIC24FJ16GA002-I/ML-ND; Code_JEDEC: MO-220; Code_IPC: QFN65P600X600-28V; ComponentLink1Description: Datasheet; ComponentLink1URL: http://ww1.microchip.com/downloads/en/DeviceDoc/39881D.pdf; ComponentLink2Description: Packaging Specification; ComponentLink2URL: http://www.microchip.com/stellent/groups/techpub_sg/documents/packagingspec/en012702.pdf; ComponentLink3Description: Microchip.com Home; ComponentLink3URL: http://www.microchip.com/
footprint QFN-ML28_N (QFN, 28-Leads, Body 6x6 mm, Pitch 0.65mm, IPC Medium Density)
footprint QFN-ML28_L (QFN, 28-Leads, Body 6x6 mm, Pitch 0.65mm, IPC High Density)
footprint QFN-ML28_M (QFN, 28-Leads, Body 6x6 mm, Pitch 0.65mm, IPC Low Density)
pins: 1 PGD1/EMUD1/AN2/C2IN-/RP0/CN4/RB0 (io), 2 PGC1/EMUC1/AN3/C2IN+/RP1/CN5/RB1 (io), 3 AN4/C1IN-/RP2/SDA2/CN6/RB2 (io), 4 AN5/C1IN+/RP3/SCL2/CN7/RB3 (io), 5 VSS (power), 6 OSCI/CLKI/CN30/RA2 (io), 7 OSCO/CLKO/CN29/PMA0/RA3 (io), 8 SOSCI/RP4/PMBE/CN1/RB4 (io), 9 SOSCO/T1CK/CN0/PMA1/RA4 (io), 10 VDD (power), 11 PGD3/EMUD3/RP5/ASDA1/CN27/PMD7/RB5 (io), 12 PGC3/EMUC3/RP6/ASCL1/CN24/PMD6/RB6 (io), 13 RP7/INT0/CN23/PMD5/RB7 (io), 14 TCK/RP8/SCL1/CN22/PMD4/RB8 (io), 15 TDO/RP9/SDA1/CN21/PMD3/RB9 (io), 16 DISVREG (in), 17 VCAP/VDDCORE (power), 18 PGD2/EMUD2/TDI/RP10/CN16/PMD2/RB10 (io), 19 PGC2/EMUC2/TMS/RP11/CN15/PMD1/RB11 (io), 20 AN12/RP12/CN14/PMD0/RB12 (io), 21 AN11/RP13/CN13/PMRD/RB13 (io), 22 AN10/CVREF/RTCC/RP14/CN12/PMWR/RB14 (io), 23 AN9/RP15/CN11/PMCS1/RB15 (io), 24 VSS (power), 25 VDD (power), 26 ~{MCLR} (in), 27 AN0/VREF+/CN2/RA0 (io), 28 AN1/VREF-/CN3/RA1 (io), 29 VSS (power)

## PIC24FJ16GA002-I/SO
designator U?
General Purpose 16-Bit Flash Microcontroller, 16KB Flash, 4KB SRAM, 28-Pin SOIC, Industrial Temperature; Published: 29-Jan-2009; LatestRevisionDate: 07-Oct-2010; LatestRevisionNote: Updated to datasheet revision D, Feb-2010. Supplier links updated.; DatasheetVersion: revD, Feb-2010; PackageVersion: revBB, Aug-2009; PackageReference: SOIC-SO28; Publisher: Altium Limited; PackageDescription: 28-Lead Plastic Small Outline (SO) - Wide 7.50mm Body [SOIC]; Supplier 1: Digi-Key; Supplier Part Number 1: PIC24FJ16GA002-I/SO-ND; Code_JEDEC: MS-013; ComponentLink1Description: Datasheet; ComponentLink1URL: http://ww1.microchip.com/downloads/en/DeviceDoc/39881D.pdf; ComponentLink2Description: Packaging Specification; ComponentLink2URL: http://www.microchip.com/stellent/groups/techpub_sg/documents/packagingspec/en012702.pdf; ComponentLink3Description: Microchip.com Home; ComponentLink3URL: http://www.microchip.com/
footprint SOIC-SO28_N (SOIC, 28-Leads, Body 17.9x7.5mm, Pitch 1.27mm, IPC Medium Density)
footprint SOIC-SO28_L (SOIC, 28-Leads, Body 17.9x7.5mm, Pitch 1.27mm, IPC High Density)
footprint SOIC-SO28_M (SOIC, 28-Leads, Body 17.9x7.5mm, Pitch 1.27mm, IPC Low Density)
pins: 1 ~{MCLR} (in), 2 AN0/VREF+/CN2/RA0 (io), 3 AN1/VREF-/CN3/RA1 (io), 4 PGD1/EMUD1/AN2/C2IN-/RP0/CN4/RB0 (io), 5 PGC1/EMUC1/AN3/C2IN+/RP1/CN5/RB1 (io), 6 AN4/C1IN-/RP2/SDA2/CN6/RB2 (io), 7 AN5/C1IN+/RP3/SCL2/CN7/RB3 (io), 8 VSS (power), 9 OSCI/CLKI/CN30/RA2 (io), 10 OSCO/CLKO/CN29/PMA0/RA3 (io), 11 SOSCI/RP4/PMBE/CN1/RB4 (io), 12 SOSCO/T1CK/CN0/PMA1/RA4 (io), 13 VDD (power), 14 PGD3/EMUD3/RP5/ASDA1/CN27/PMD7/RB5 (io), 15 PGC3/EMUC3/RP6/ASCL1/CN24/PMD6/RB6 (io), 16 RP7/INT0/CN23/PMD5/RB7 (io), 17 TCK/RP8/SCL1/CN22/PMD4/RB8 (io), 18 TDO/RP9/SDA1/CN21/PMD3/RB9 (io), 19 DISVREG (in), 20 VCAP/VDDCORE (power), 21 PGD2/EMUD2/TDI/RP10/CN16/PMD2/RB10 (io), 22 PGC2/EMUC2/TMS/RP11/CN15/PMD1/RB11 (io), 23 AN12/RP12/CN14/PMD0/RB12 (io), 24 AN11/RP13/CN13/PMRD/RB13 (io), 25 AN10/CVREF/RTCC/RP14/CN12/PMWR/RB14 (io), 26 AN9/RP15/CN11/PMCS1/RB15 (io), 27 VSS (power), 28 VDD (power)

## PIC24FJ16GA002-I/SP
designator U?
General Purpose 16-Bit Flash Microcontroller, 16KB Flash, 4KB SRAM, 28-Pin SPDIP, Industrial Temperature; Published: 29-Jan-2009; LatestRevisionDate: 07-Oct-2010; LatestRevisionNote: Updated to datasheet revision D, Feb-2010. Supplier links updated.; DatasheetVersion: revD, Feb-2010; PackageVersion: revBB, Aug-2009; PackageReference: SPDIP300-SP28; Publisher: Altium Limited; PackageDescription: 28-Lead Skinny Plastic Dual In-Line (SP) - 300 mil Body [SPDIP]; Supplier 1: Digi-Key; Supplier Part Number 1: PIC24FJ16GA002-I/SP-ND; ComponentLink1Description: Datasheet; ComponentLink1URL: http://ww1.microchip.com/downloads/en/DeviceDoc/39881D.pdf; ComponentLink2Description: Packaging Specification; ComponentLink2URL: http://www.microchip.com/stellent/groups/techpub_sg/documents/packagingspec/en012702.pdf; ComponentLink3Description: Microchip.com Home; ComponentLink3URL: http://www.microchip.com/
footprint SPDIP300-SP28 (DIP, 28-Leads, Row Spacing 7.62mm, Pitch 2.54mm, Body 34.9x6.8mm)
pins: 1 ~{MCLR} (in), 2 AN0/VREF+/CN2/RA0 (io), 3 AN1/VREF-/CN3/RA1 (io), 4 PGD1/EMUD1/AN2/C2IN-/RP0/CN4/RB0 (io), 5 PGC1/EMUC1/AN3/C2IN+/RP1/CN5/RB1 (io), 6 AN4/C1IN-/RP2/SDA2/CN6/RB2 (io), 7 AN5/C1IN+/RP3/SCL2/CN7/RB3 (io), 8 VSS (power), 9 OSCI/CLKI/CN30/RA2 (io), 10 OSCO/CLKO/CN29/PMA0/RA3 (io), 11 SOSCI/RP4/PMBE/CN1/RB4 (io), 12 SOSCO/T1CK/CN0/PMA1/RA4 (io), 13 VDD (power), 14 PGD3/EMUD3/RP5/ASDA1/CN27/PMD7/RB5 (io), 15 PGC3/EMUC3/RP6/ASCL1/CN24/PMD6/RB6 (io), 16 RP7/INT0/CN23/PMD5/RB7 (io), 17 TCK/RP8/SCL1/CN22/PMD4/RB8 (io), 18 TDO/RP9/SDA1/CN21/PMD3/RB9 (io), 19 DISVREG (in), 20 VCAP/VDDCORE (power), 21 PGD2/EMUD2/TDI/RP10/CN16/PMD2/RB10 (io), 22 PGC2/EMUC2/TMS/RP11/CN15/PMD1/RB11 (io), 23 AN12/RP12/CN14/PMD0/RB12 (io), 24 AN11/RP13/CN13/PMRD/RB13 (io), 25 AN10/CVREF/RTCC/RP14/CN12/PMWR/RB14 (io), 26 AN9/RP15/CN11/PMCS1/RB15 (io), 27 VSS (power), 28 VDD (power)

## PIC24FJ16GA002-I/SS
designator U?
General Purpose 16-Bit Flash Microcontroller, 16KB Flash, 4KB SRAM, 28-Pin SSOP, Industrial Temperature; Published: 29-Jan-2009; LatestRevisionDate: 07-Oct-2010; LatestRevisionNote: Updated to datasheet revision D, Feb-2010. Supplier links updated.; DatasheetVersion: revD, Feb-2010; PackageVersion: revBB, Aug-2009; PackageReference: SSOP-SS28; Publisher: Altium Limited; PackageDescription: 28-Lead Plastic Shrink Small Outline (SS) - 5.3mm Body [SSOP]; Supplier 1: Digi-Key; Supplier Part Number 1: PIC24FJ16GA002-I/SS-ND; Code_JEDEC: MS-150; Code_IPC: SOP65P780-28; ComponentLink1Description: Datasheet; ComponentLink1URL: http://ww1.microchip.com/downloads/en/DeviceDoc/39881D.pdf; ComponentLink2Description: Packaging Specification; ComponentLink2URL: http://www.microchip.com/stellent/groups/techpub_sg/documents/packagingspec/en012702.pdf; ComponentLink3Description: Microchip.com Home; ComponentLink3URL: http://www.microchip.com/
footprint SSOP-SS28_N (SOP, 28-Leads, Body 10.2x5.2mm, Pitch 0.65mm, IPC Medium Density)
footprint SSOP-SS28_L (SOP, 28-Leads, Body 10.2x5.2mm, Pitch 0.65mm, IPC High Density)
footprint SSOP-SS28_M (SOP, 28-Leads, Body 10.2x5.2mm, Pitch 0.65mm, IPC Low Density)
pins: 1 ~{MCLR} (in), 2 AN0/VREF+/CN2/RA0 (io), 3 AN1/VREF-/CN3/RA1 (io), 4 PGD1/EMUD1/AN2/C2IN-/RP0/CN4/RB0 (io), 5 PGC1/EMUC1/AN3/C2IN+/RP1/CN5/RB1 (io), 6 AN4/C1IN-/RP2/SDA2/CN6/RB2 (io), 7 AN5/C1IN+/RP3/SCL2/CN7/RB3 (io), 8 VSS (power), 9 OSCI/CLKI/CN30/RA2 (io), 10 OSCO/CLKO/CN29/PMA0/RA3 (io), 11 SOSCI/RP4/PMBE/CN1/RB4 (io), 12 SOSCO/T1CK/CN0/PMA1/RA4 (io), 13 VDD (power), 14 PGD3/EMUD3/RP5/ASDA1/CN27/PMD7/RB5 (io), 15 PGC3/EMUC3/RP6/ASCL1/CN24/PMD6/RB6 (io), 16 RP7/INT0/CN23/PMD5/RB7 (io), 17 TCK/RP8/SCL1/CN22/PMD4/RB8 (io), 18 TDO/RP9/SDA1/CN21/PMD3/RB9 (io), 19 DISVREG (in), 20 VCAP/VDDCORE (power), 21 PGD2/EMUD2/TDI/RP10/CN16/PMD2/RB10 (io), 22 PGC2/EMUC2/TMS/RP11/CN15/PMD1/RB11 (io), 23 AN12/RP12/CN14/PMD0/RB12 (io), 24 AN11/RP13/CN13/PMRD/RB13 (io), 25 AN10/CVREF/RTCC/RP14/CN12/PMWR/RB14 (io), 26 AN9/RP15/CN11/PMCS1/RB15 (io), 27 VSS (power), 28 VDD (power)

## PIC24FJ16GA002T-I/ML
designator U?
General Purpose 16-Bit Flash Microcontroller, 16KB Flash, 4KB SRAM, 28-Pin QFN, Industrial Temperature, Tape and Reel; Published: 29-Jan-2009; LatestRevisionDate: 07-Oct-2010; LatestRevisionNote: Updated to datasheet revision D, Feb-2010. Supplier links updated.; DatasheetVersion: revD, Feb-2010; PackageVersion: revBB, Aug-2009; PackageReference: QFN-ML28; Publisher: Altium Limited; PackageDescription: 28-Lead Plastic Quad Flat, No Lead Package (ML) - 6x6 mm Body [QFN] with 0.55 mm Contact Length; Supplier 1: Digi-Key; Supplier Part Number 1: PIC24FJ16GA002T-I/ML-ND; Code_JEDEC: MO-220; Code_IPC: QFN65P600X600-28V; ComponentLink1Description: Datasheet; ComponentLink1URL: http://ww1.microchip.com/downloads/en/DeviceDoc/39881D.pdf; ComponentLink2Description: Packaging Specification; ComponentLink2URL: http://www.microchip.com/stellent/groups/techpub_sg/documents/packagingspec/en012702.pdf; ComponentLink3Description: Microchip.com Home; ComponentLink3URL: http://www.microchip.com/
footprint QFN-ML28_N (QFN, 28-Leads, Body 6x6 mm, Pitch 0.65mm, IPC Medium Density)
footprint QFN-ML28_L (QFN, 28-Leads, Body 6x6 mm, Pitch 0.65mm, IPC High Density)
footprint QFN-ML28_M (QFN, 28-Leads, Body 6x6 mm, Pitch 0.65mm, IPC Low Density)
pins: 1 PGD1/EMUD1/AN2/C2IN-/RP0/CN4/RB0 (io), 2 PGC1/EMUC1/AN3/C2IN+/RP1/CN5/RB1 (io), 3 AN4/C1IN-/RP2/SDA2/CN6/RB2 (io), 4 AN5/C1IN+/RP3/SCL2/CN7/RB3 (io), 5 VSS (power), 6 OSCI/CLKI/CN30/RA2 (io), 7 OSCO/CLKO/CN29/PMA0/RA3 (io), 8 SOSCI/RP4/PMBE/CN1/RB4 (io), 9 SOSCO/T1CK/CN0/PMA1/RA4 (io), 10 VDD (power), 11 PGD3/EMUD3/RP5/ASDA1/CN27/PMD7/RB5 (io), 12 PGC3/EMUC3/RP6/ASCL1/CN24/PMD6/RB6 (io), 13 RP7/INT0/CN23/PMD5/RB7 (io), 14 TCK/RP8/SCL1/CN22/PMD4/RB8 (io), 15 TDO/RP9/SDA1/CN21/PMD3/RB9 (io), 16 DISVREG (in), 17 VCAP/VDDCORE (power), 18 PGD2/EMUD2/TDI/RP10/CN16/PMD2/RB10 (io), 19 PGC2/EMUC2/TMS/RP11/CN15/PMD1/RB11 (io), 20 AN12/RP12/CN14/PMD0/RB12 (io), 21 AN11/RP13/CN13/PMRD/RB13 (io), 22 AN10/CVREF/RTCC/RP14/CN12/PMWR/RB14 (io), 23 AN9/RP15/CN11/PMCS1/RB15 (io), 24 VSS (power), 25 VDD (power), 26 ~{MCLR} (in), 27 AN0/VREF+/CN2/RA0 (io), 28 AN1/VREF-/CN3/RA1 (io), 29 VSS (power)

## PIC24FJ16GA002T-I/SO
designator U?
General Purpose 16-Bit Flash Microcontroller, 16KB Flash, 4KB SRAM, 28-Pin SOIC, Industrial Temperature, Tape and Reel; Published: 29-Jan-2009; LatestRevisionDate: 07-Oct-2010; LatestRevisionNote: Updated to datasheet revision D, Feb-2010. Supplier links updated.; DatasheetVersion: revD, Feb-2010; PackageVersion: revBB, Aug-2009; PackageReference: SOIC-SO28; Publisher: Altium Limited; PackageDescription: 28-Lead Plastic Small Outline (SO) - Wide 7.50mm Body [SOIC]; Supplier 1: Digi-Key; Supplier Part Number 1: PIC24FJ16GA002T-I/SO-ND; Code_JEDEC: MS-013; ComponentLink1Description: Datasheet; ComponentLink1URL: http://ww1.microchip.com/downloads/en/DeviceDoc/39881D.pdf; ComponentLink2Description: Packaging Specification; ComponentLink2URL: http://www.microchip.com/stellent/groups/techpub_sg/documents/packagingspec/en012702.pdf; ComponentLink3Description: Microchip.com Home; ComponentLink3URL: http://www.microchip.com/
footprint SOIC-SO28_N (SOIC, 28-Leads, Body 17.9x7.5mm, Pitch 1.27mm, IPC Medium Density)
footprint SOIC-SO28_L (SOIC, 28-Leads, Body 17.9x7.5mm, Pitch 1.27mm, IPC High Density)
footprint SOIC-SO28_M (SOIC, 28-Leads, Body 17.9x7.5mm, Pitch 1.27mm, IPC Low Density)
pins: 1 ~{MCLR} (in), 2 AN0/VREF+/CN2/RA0 (io), 3 AN1/VREF-/CN3/RA1 (io), 4 PGD1/EMUD1/AN2/C2IN-/RP0/CN4/RB0 (io), 5 PGC1/EMUC1/AN3/C2IN+/RP1/CN5/RB1 (io), 6 AN4/C1IN-/RP2/SDA2/CN6/RB2 (io), 7 AN5/C1IN+/RP3/SCL2/CN7/RB3 (io), 8 VSS (power), 9 OSCI/CLKI/CN30/RA2 (io), 10 OSCO/CLKO/CN29/PMA0/RA3 (io), 11 SOSCI/RP4/PMBE/CN1/RB4 (io), 12 SOSCO/T1CK/CN0/PMA1/RA4 (io), 13 VDD (power), 14 PGD3/EMUD3/RP5/ASDA1/CN27/PMD7/RB5 (io), 15 PGC3/EMUC3/RP6/ASCL1/CN24/PMD6/RB6 (io), 16 RP7/INT0/CN23/PMD5/RB7 (io), 17 TCK/RP8/SCL1/CN22/PMD4/RB8 (io), 18 TDO/RP9/SDA1/CN21/PMD3/RB9 (io), 19 DISVREG (in), 20 VCAP/VDDCORE (power), 21 PGD2/EMUD2/TDI/RP10/CN16/PMD2/RB10 (io), 22 PGC2/EMUC2/TMS/RP11/CN15/PMD1/RB11 (io), 23 AN12/RP12/CN14/PMD0/RB12 (io), 24 AN11/RP13/CN13/PMRD/RB13 (io), 25 AN10/CVREF/RTCC/RP14/CN12/PMWR/RB14 (io), 26 AN9/RP15/CN11/PMCS1/RB15 (io), 27 VSS (power), 28 VDD (power)

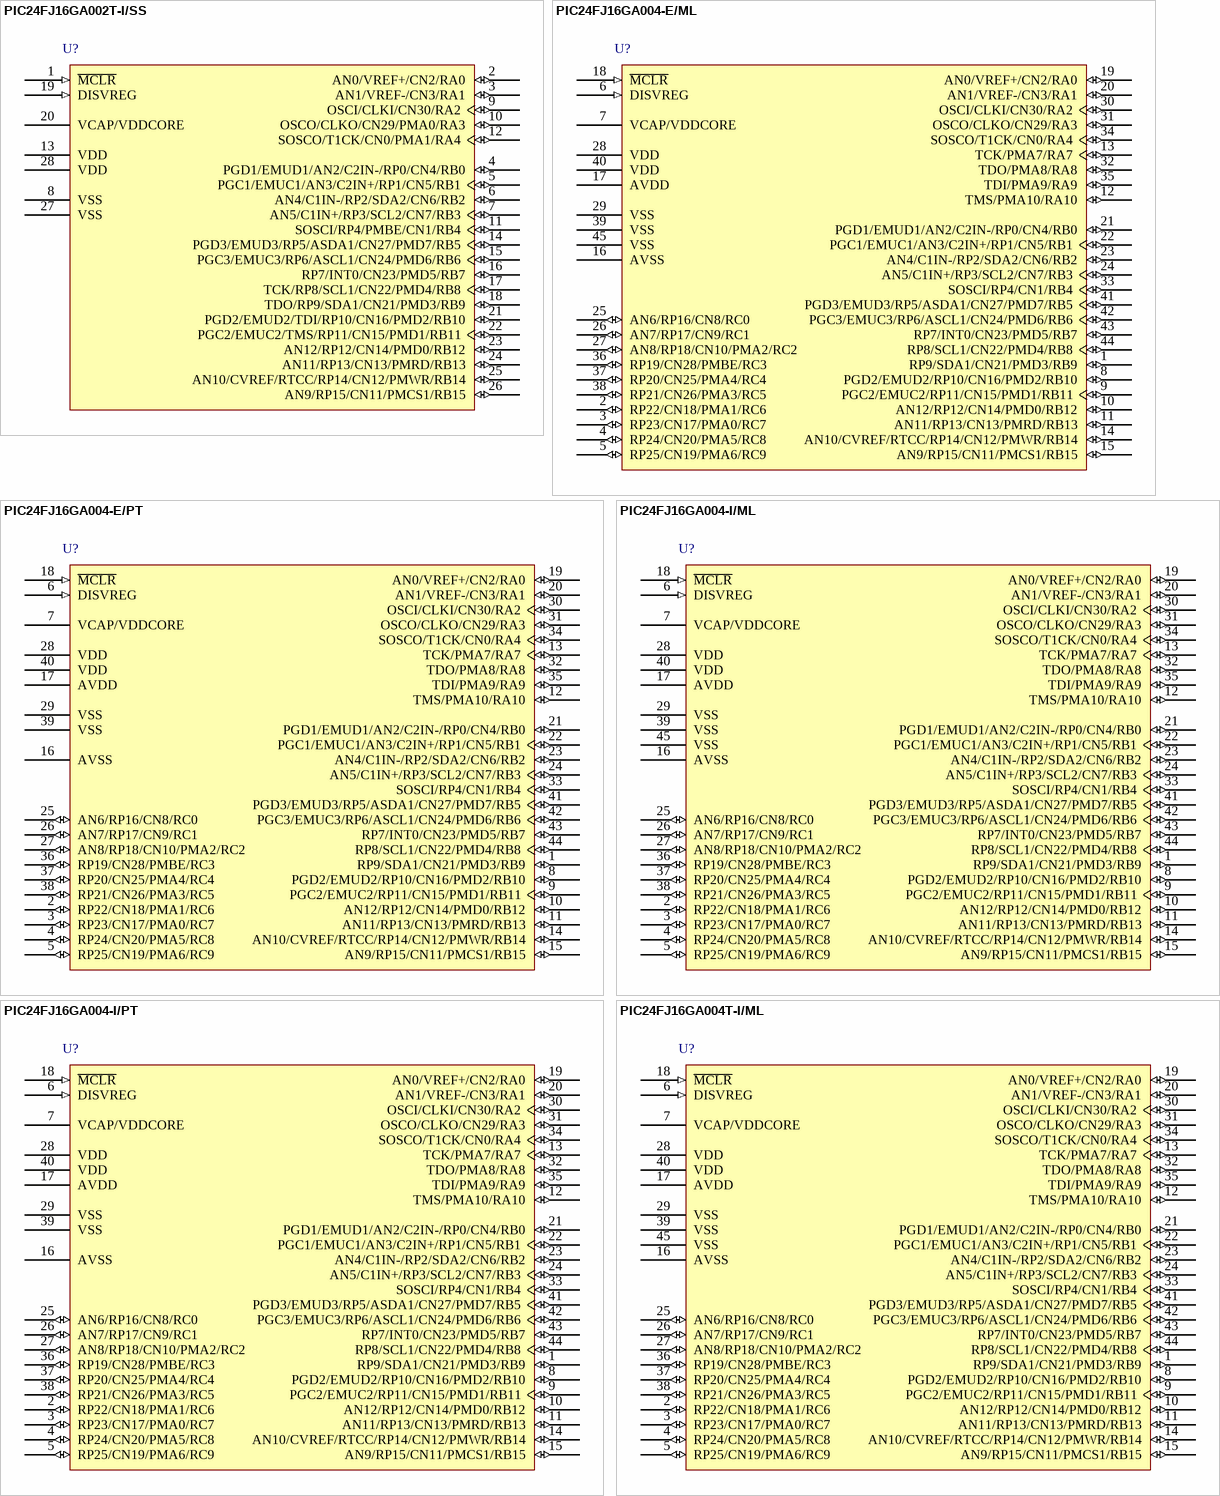
[diagram p6: symbols PIC24FJ16GA002T-I/SS to PIC24FJ16GA004T-I/ML]

## PIC24FJ16GA002T-I/SS
designator U?
General Purpose 16-Bit Flash Microcontroller, 16KB Flash, 4KB SRAM, 28-Pin SSOP, Industrial Temperature, Tape and Reel; Published: 29-Jan-2009; LatestRevisionDate: 07-Oct-2010; LatestRevisionNote: Updated to datasheet revision D, Feb-2010. Supplier links updated.; DatasheetVersion: revD, Feb-2010; PackageVersion: revBB, Aug-2009; PackageReference: SSOP-SS28; Publisher: Altium Limited; PackageDescription: 28-Lead Plastic Shrink Small Outline (SS) - 5.3mm Body [SSOP]; Supplier 1: Digi-Key; Supplier Part Number 1: PIC24FJ16GA002T-I/SSTR-ND; Code_JEDEC: MS-150; Code_IPC: SOP65P780-28; ComponentLink1Description: Datasheet; ComponentLink1URL: http://ww1.microchip.com/downloads/en/DeviceDoc/39881D.pdf; ComponentLink2Description: Packaging Specification; ComponentLink2URL: http://www.microchip.com/stellent/groups/techpub_sg/documents/packagingspec/en012702.pdf; ComponentLink3Description: Microchip.com Home; ComponentLink3URL: http://www.microchip.com/
footprint SSOP-SS28_N (SOP, 28-Leads, Body 10.2x5.2mm, Pitch 0.65mm, IPC Medium Density)
footprint SSOP-SS28_L (SOP, 28-Leads, Body 10.2x5.2mm, Pitch 0.65mm, IPC High Density)
footprint SSOP-SS28_M (SOP, 28-Leads, Body 10.2x5.2mm, Pitch 0.65mm, IPC Low Density)
pins: 1 ~{MCLR} (in), 2 AN0/VREF+/CN2/RA0 (io), 3 AN1/VREF-/CN3/RA1 (io), 4 PGD1/EMUD1/AN2/C2IN-/RP0/CN4/RB0 (io), 5 PGC1/EMUC1/AN3/C2IN+/RP1/CN5/RB1 (io), 6 AN4/C1IN-/RP2/SDA2/CN6/RB2 (io), 7 AN5/C1IN+/RP3/SCL2/CN7/RB3 (io), 8 VSS (power), 9 OSCI/CLKI/CN30/RA2 (io), 10 OSCO/CLKO/CN29/PMA0/RA3 (io), 11 SOSCI/RP4/PMBE/CN1/RB4 (io), 12 SOSCO/T1CK/CN0/PMA1/RA4 (io), 13 VDD (power), 14 PGD3/EMUD3/RP5/ASDA1/CN27/PMD7/RB5 (io), 15 PGC3/EMUC3/RP6/ASCL1/CN24/PMD6/RB6 (io), 16 RP7/INT0/CN23/PMD5/RB7 (io), 17 TCK/RP8/SCL1/CN22/PMD4/RB8 (io), 18 TDO/RP9/SDA1/CN21/PMD3/RB9 (io), 19 DISVREG (in), 20 VCAP/VDDCORE (power), 21 PGD2/EMUD2/TDI/RP10/CN16/PMD2/RB10 (io), 22 PGC2/EMUC2/TMS/RP11/CN15/PMD1/RB11 (io), 23 AN12/RP12/CN14/PMD0/RB12 (io), 24 AN11/RP13/CN13/PMRD/RB13 (io), 25 AN10/CVREF/RTCC/RP14/CN12/PMWR/RB14 (io), 26 AN9/RP15/CN11/PMCS1/RB15 (io), 27 VSS (power), 28 VDD (power)